# Altium schematic symbol library AltiumDesigner.SchLib: 117 symbols
Pins are listed as number, name and electrical type; pins without a type are passive.

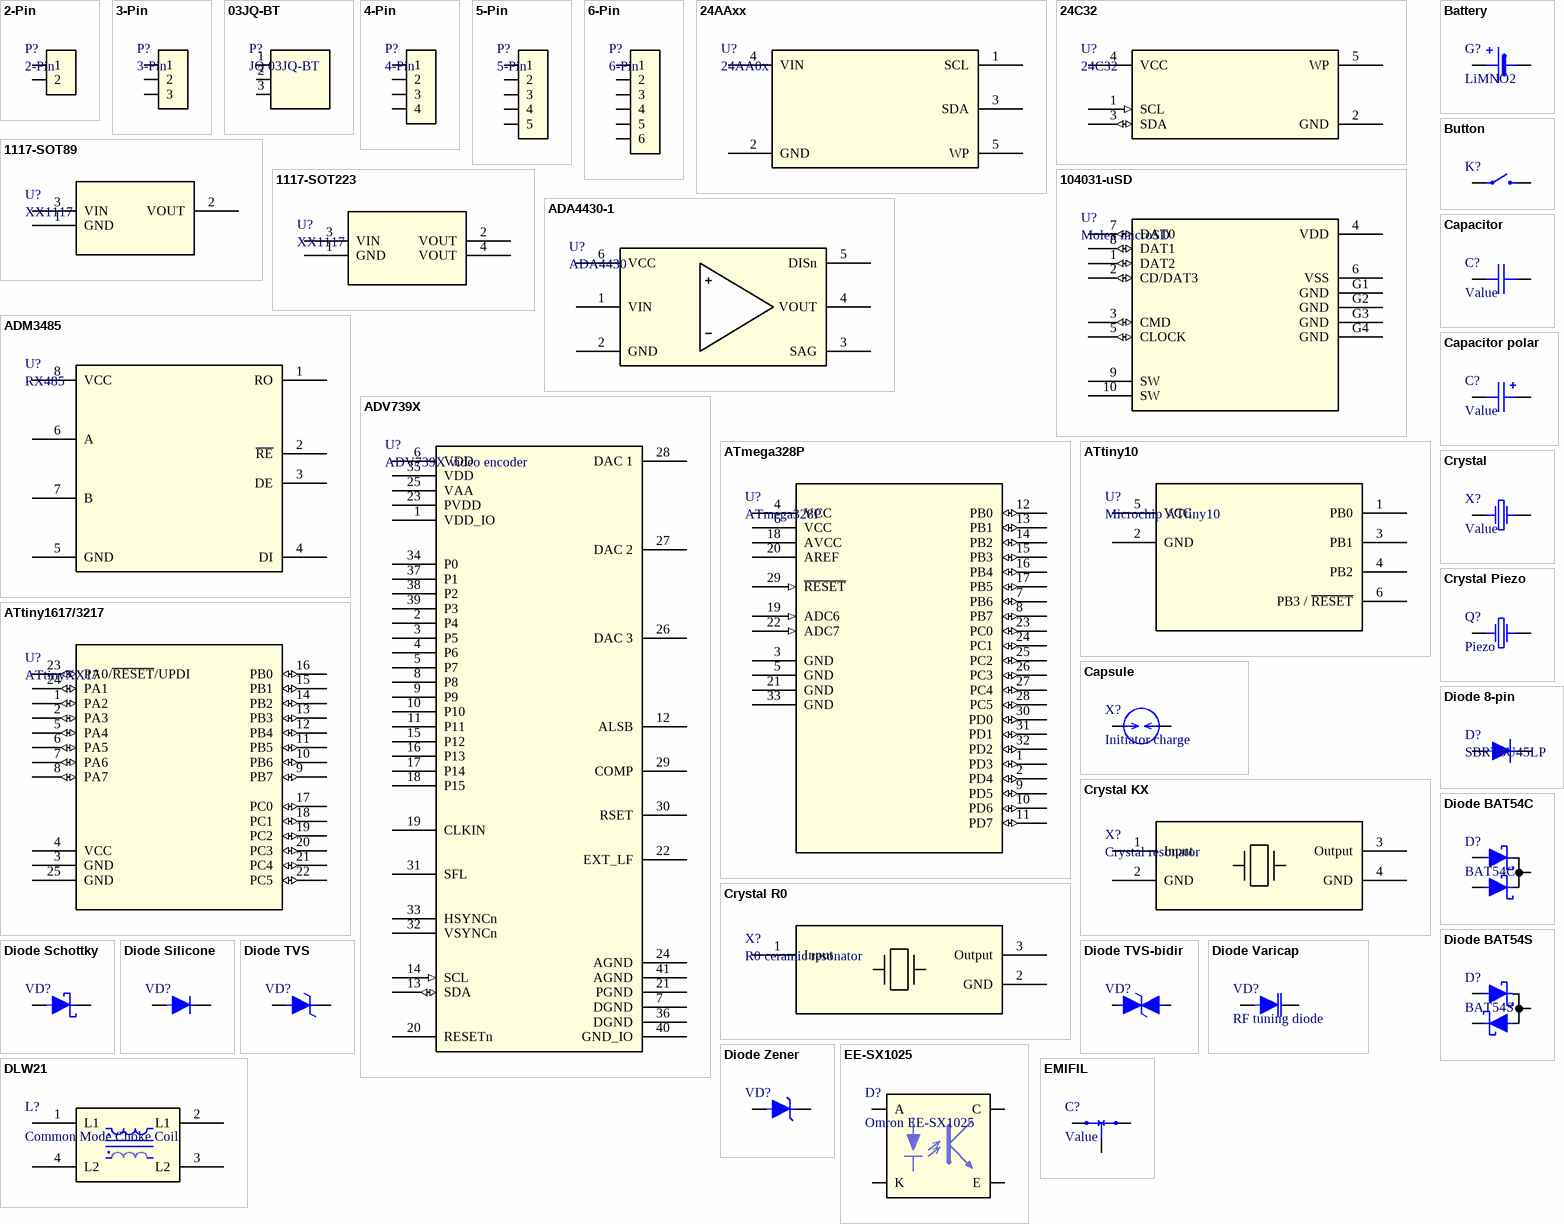
[diagram p0: symbols 2-Pin to EMIFIL]

## 2-Pin
designator P?
footprint KLS1-5.08-02-S
footprint JST-B2B-XH-A
pins: 1, 2

## 3-Pin
designator P?
footprint KLS1-5.08-03-S
footprint JST-B3B-XH-A
pins: 1, 2, 3

## 03JQ-BT
designator P?, comment JQ 03JQ-BT
footprint 03JQ-BT
pins: 1, 2, 3

## 4-Pin
designator P?
footprint JST-B4B-XH-A
pins: 1, 2, 3, 4

## 5-Pin
designator P?
footprint JST-B5B-XH-A
pins: 1, 2, 3, 4, 5

## 6-Pin
designator P?
footprint JST-B6B-XH-A
pins: 1, 2, 3, 4, 5, 6

## 24AAxx
designator U?, comment 24AA0x
footprint SOT23-5
pins: 1 SCL, 2 GND (power), 3 SDA, 4 VIN (power), 5 WP

## 24C32
designator U?
footprint SOT23-5
pins: 1 SCL (in), 2 GND (power), 3 SDA (io), 4 VCC (power), 5 WP

## 1117-SOT89
designator U?, comment XX1117
footprint SOT89
pins: 1 GND (power), 2 VOUT (power), 3 VIN (power)

## 1117-SOT223
designator U?, comment XX1117
footprint SOT223
pins: 1 GND (power), 2 VOUT (power), 3 VIN (power), 4 VOUT (power)

## 104031-uSD
designator U?, comment Molex microSD
footprint 104031-uSD
pins: 1 DAT2 (io), 2 CD/DAT3 (io), 3 CMD (io), 4 VDD (power), 5 CLOCK (io), 6 VSS (power), 7 DAT0 (io), 8 DAT1 (io), 9 SW, 10 SW, G1 GND, G2 GND, G3 GND, G4 GND

## ADA4430-1
designator U?, comment ADA4430
footprint SOT23-6
footprint SOT323-6
pins: 1 VIN, 2 GND (power), 3 SAG, 4 VOUT, 5 DISn, 6 VCC (power)

## ADM3485
designator U?, comment RX485
footprint SO8
pins: 1 RO, 2 ~{RE}, 3 DE, 4 DI, 5 GND (power), 6 A, 7 B, 8 VCC (power)

## ADV739X
designator U?, comment ADV739X video encoder
footprint VQFN40
pins: 1 VDD_IO (power), 2 P4, 3 P5, 4 P6, 5 P7, 6 VDD (power), 7 DGND (power), 8 P8, 9 P9, 10 P10, 11 P11, 12 ALSB, 13 SDA (io), 14 SCL (in), 15 P12, 16 P13, 17 P14, 18 P15, 19 CLKIN, 20 RESETn, 21 PGND (power), 22 EXT_LF, 23 PVDD (power), 24 AGND (power), 25 VAA (power), 26 DAC 3, 27 DAC 2, 28 DAC 1, 29 COMP, 30 RSET, 31 SFL, 32 VSYNCn, 33 HSYNCn, 34 P0, 35 VDD (power), 36 DGND (power), 37 P1, 38 P2, 39 P3, 40 GND_IO (power), 41 AGND (power)

## ATmega328P
designator U?
footprint VQFNP32
pins: 1 PD3 (io), 2 PD4 (io), 3 GND (power), 4 VCC (power), 5 GND (power), 6 VCC (power), 7 PB6 (io), 8 PB7 (io), 9 PD5 (io), 10 PD6 (io), 11 PD7 (io), 12 PB0 (io), 13 PB1 (io), 14 PB2 (io), 15 PB3 (io), 16 PB4 (io), 17 PB5 (io), 18 AVCC (power), 19 ADC6 (in), 20 AREF (power), 21 GND (power), 22 ADC7 (in), 23 PC0 (io), 24 PC1 (io), 25 PC2 (io), 26 PC3 (io), 27 PC4 (io), 28 PC5 (io), 29 ~{RESET} (in), 30 PD0 (io), 31 PD1 (io), 32 PD2 (io), 33 GND (power)

## ATtiny10
designator U?, comment Microchip ATtiny10
footprint SOT23-6
pins: 1 PB0, 2 GND (power), 3 PB1, 4 PB2, 5 VCC (power), 6 PB3 / ~{RESET}

## ATtiny1617/3217
designator U?, comment ATtinyXX17
footprint VQFN24
pins: 1 PA2 (io), 2 PA3 (io), 3 GND (power), 4 VCC (power), 5 PA4 (io), 6 PA5 (io), 7 PA6 (io), 8 PA7 (io), 9 PB7 (io), 10 PB6 (io), 11 PB5 (io), 12 PB4 (io), 13 PB3 (io), 14 PB2 (io), 15 PB1 (io), 16 PB0 (io), 17 PC0 (io), 18 PC1 (io), 19 PC2 (io), 20 PC3 (io), 21 PC4 (io), 22 PC5 (io), 23 PA0/~{RESET}/UPDI (io), 24 PA1 (io), 25 GND (power)

## Battery
designator G?, comment LiMNO2
footprint CR1225-VBY2
pins: 1, 2

## Button
designator K?
footprint TS7704
footprint R-668048
pins: 1, 2

## Capacitor
designator C?, comment Value
footprint 0402
footprint 0603
footprint 0805
footprint 1206
footprint 2010
footprint 2512
footprint 1210
footprint 1812
footprint 1825
footprint 2220
footprint 2225
footprint 0402 rounded
footprint 1008
footprint 0201
pins: 1, 2

## Capacitor polar
designator C?, comment Value
footprint Cap F
footprint CAP A
footprint CAP D
footprint CAP D12.5
footprint CAP D10
pins: 1, 2

## Capsule
designator X?, comment Initiator charge
footprint Capsule
footprint XH2.54-2S (Signal connector)
pins: 1, 2

## Crystal
designator X?, comment Value
footprint ABS05
pins: 1, 2

## Crystal KX
designator X?, comment Crystal resonator
footprint KX-9
footprint KX-6
footprint KX-4
pins: 1 Input, 2 GND, 3 Output, 4 GND

## Crystal Piezo
designator Q?, comment Piezo
footprint PKMCS0909E4000-R1
pins: 1, 2

## Crystal R0
designator X?, comment R0 ceramic resonator
footprint R0
pins: 1 Input, 2 GND, 3 Output

## Diode 8-pin
designator D?, comment SBRT6U45LP
footprint SON Q3
pins: 1 A, 2 A, 3 A, 4 A, 5 K, 6 K, 7 K, 8 K

## Diode BAT54C
designator D?, comment BAT54C
footprint SOT323
footprint SOT23-3
footprint SOT523
pins: 1 A, 2 A, 3 K

## Diode BAT54S
designator D?, comment BAT54S
footprint SOT323
footprint SOT23-3
footprint SOT523
pins: 1 A, 2 K, 3 C

## Diode Schottky
designator VD?
footprint SOD323F
footprint SOD523
footprint SMB
footprint POWERDI5
footprint SMA
footprint SMC
pins: 1 A, 2 K

## Diode Silicone
designator VD?
footprint SOD323F
footprint SOD523
footprint SMB
footprint POWERDI5
footprint SMA
footprint SMC
pins: 1 A, 2 K

## Diode TVS
designator VD?
footprint SMA
footprint SMB
footprint SMC
pins: 1 A, 2 K

## Diode TVS-bidir
designator VD?
footprint X1SON
footprint SOD323Bi
footprint SMABi
pins: 1 A, 2 K

## Diode Varicap
designator VD?, comment RF tuning diode
footprint SC79
pins: 1 A, 2 K

## Diode Zener
designator VD?
footprint SOD323F
footprint SOD523
footprint SMB
footprint POWERDI5
footprint SMA
footprint SMC
pins: 1 A, 2 K

## DLW21
designator L?, comment Common Mode Choke Coil
footprint DLW21
pins: 1 L1, 2 L1, 3 L2, 4 L2

## EE-SX1025
designator D?, comment Omron EE-SX1025
footprint EE-SX1025
pins: 1 A, 2 K, 3 C, 4 E

## EMIFIL
designator C?, comment Value
footprint 0402 EMIFIL
footprint 0603 EMIFIL
pins: 1, 2, 3

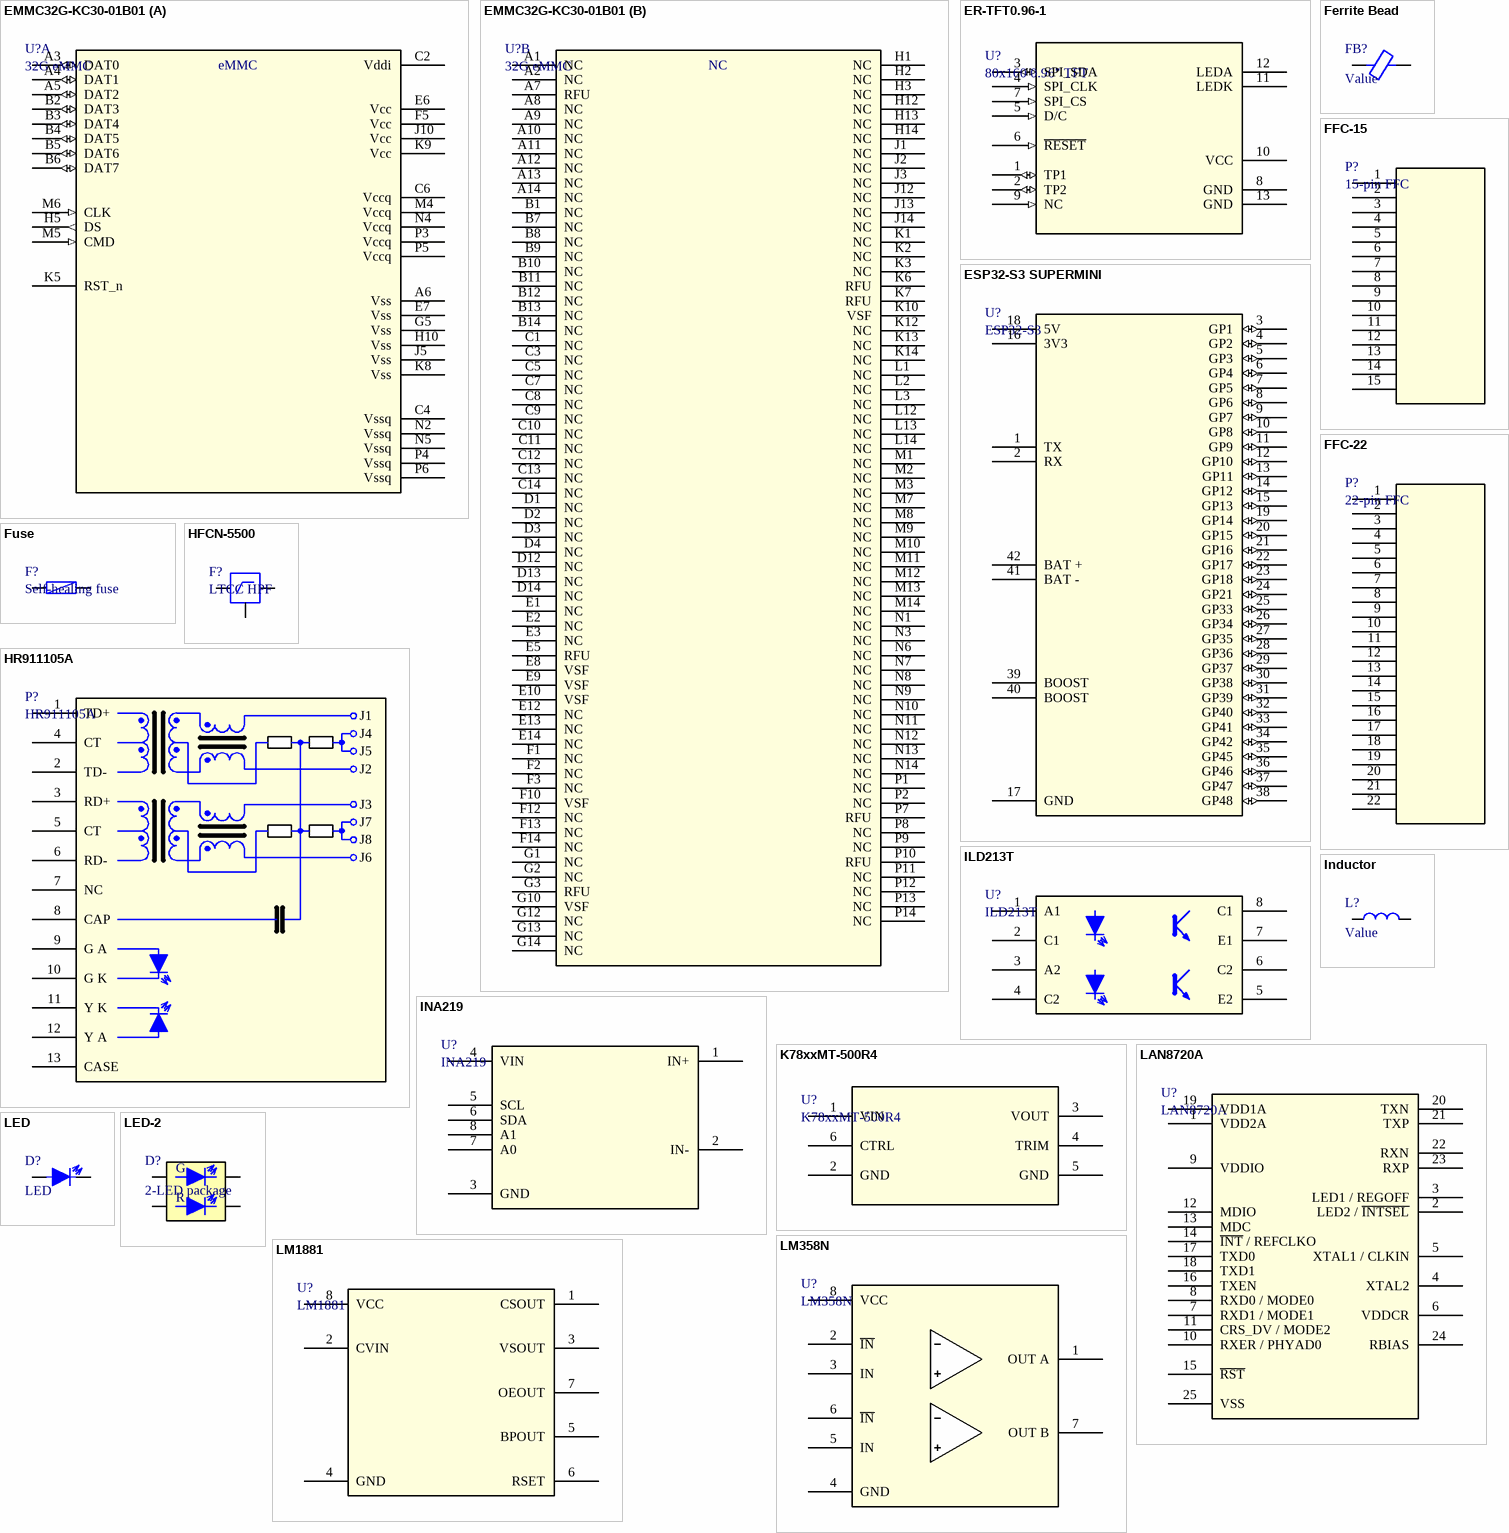
[diagram p1: symbols EMMC32G-KC30-01B01 to LM1881]

## EMMC32G-KC30-01B01
designator U?, comment 32G eMMC
footprint FBGA-153
part A pins: A3 DAT0 (io), A4 DAT1 (io), A5 DAT2 (io), A6 Vss (power), B2 DAT3 (io), B3 DAT4 (io), B4 DAT5 (io), B5 DAT6 (io), B6 DAT7 (io), C2 Vddi, C4 Vssq (power), C6 Vccq (power), E6 Vcc (power), E7 Vss (power), F5 Vcc (power), G5 Vss (power), H5 DS (out), H10 Vss (power), J5 Vss (power), J10 Vcc (power), K5 RST_n, K8 Vss (power), K9 Vcc (power), M4 Vccq (power), M5 CMD (in), M6 CLK (in), N2 Vssq (power), N4 Vccq (power), N5 Vssq (power), P3 Vccq (power), P4 Vssq (power), P5 Vccq (power), P6 Vssq (power)
part B pins: A1 NC (power), A2 NC (power), A7 RFU (power), A8 NC (power), A9 NC (power), A10 NC (power), A11 NC (power), A12 NC (power), A13 NC (power), A14 NC (power), B1 NC (power), B7 NC (power), B8 NC (power), B9 NC (power), B10 NC (power), B11 NC (power), B12 NC (power), B13 NC (power), B14 NC (power), C1 NC (power), C3 NC (power), C5 NC (power), C7 NC (power), C8 NC (power), C9 NC (power), C10 NC (power), C11 NC (power), C12 NC (power), C13 NC (power), C14 NC (power), D1 NC (power), D2 NC (power), D3 NC (power), D4 NC (power), D12 NC (power), D13 NC (power), D14 NC (power), E1 NC (power), E2 NC (power), E3 NC (power), E5 RFU (power), E8 VSF (power), E9 VSF (power), E10 VSF (power), E12 NC (power), E13 NC (power), E14 NC (power), F1 NC (power), F2 NC (power), F3 NC (power), F10 VSF (power), F12 NC (power), F13 NC (power), F14 NC (power), G1 NC (power), G2 NC (power), G3 RFU (power), G10 VSF (power), G12 NC (power), G13 NC (power), G14 NC (power), H1 NC (power), H2 NC (power), H3 NC (power), H12 NC (power), H13 NC (power), H14 NC (power), J1 NC (power), J2 NC (power), J3 NC (power), J12 NC (power), J13 NC (power), J14 NC (power), K1 NC (power), K2 NC (power), K3 NC (power), K6 RFU (power), K7 RFU (power), K10 VSF (power), K12 NC (power), K13 NC (power), K14 NC (power), L1 NC (power), L2 NC (power), L3 NC (power), L12 NC (power), L13 NC (power), L14 NC (power), M1 NC (power), M2 NC (power), M3 NC (power), M7 NC (power), M8 NC (power), M9 NC (power), M10 NC (power), M11 NC (power), M12 NC (power), M13 NC (power), M14 NC (power), N1 NC (power), N3 NC (power), N6 NC (power), N7 NC (power), N8 NC (power), N9 NC (power), N10 NC (power), N11 NC (power), N12 NC (power), N13 NC (power), N14 NC (power), P1 NC (power), P2 NC (power), P7 RFU (power), P8 NC (power), P9 NC (power), P10 RFU (power), P11 NC (power), P12 NC (power), P13 NC (power), P14 NC (power)
part A text: eMMC

## ER-TFT0.96-1
designator U?, comment 80x160 0.96" TFT
footprint ER-TFT0.96-1
footprint ER-TFT0.96-1-TURN
pins: 1 TP1 (io), 2 TP2 (io), 3 SPI_SDA (io), 4 SPI_CLK (in), 5 D/C (in), 6 ~{RESET} (in), 7 SPI_CS (in), 8 GND (power), 9 NC (in), 10 VCC (power), 11 LEDK (power), 12 LEDA (power), 13 GND (power)

## ESP32-S3 SUPERMINI
designator U?, comment ESP32-S3
footprint ESP32-S3-SUPERMINI
pins: 1 TX, 2 RX, 3 GP1 (io), 4 GP2 (io), 5 GP3 (io), 6 GP4 (io), 7 GP5 (io), 8 GP6 (io), 9 GP7 (io), 10 GP8 (io), 11 GP9 (io), 12 GP10 (io), 13 GP11 (io), 14 GP12 (io), 15 GP13 (io), 16 3V3 (power), 17 GND (power), 18 5V (power), 19 GP14 (io), 20 GP15 (io), 21 GP16 (io), 22 GP17 (io), 23 GP18 (io), 24 GP21 (io), 25 GP33 (io), 26 GP34 (io), 27 GP35 (io), 28 GP36 (io), 29 GP37 (io), 30 GP38 (io), 31 GP39 (io), 32 GP40 (io), 33 GP41 (io), 34 GP42 (io), 35 GP45 (io), 36 GP46 (io), 37 GP47 (io), 38 GP48 (io), 39 BOOST, 40 BOOST, 41 BAT -, 42 BAT +

## Ferrite Bead
designator FB?, comment Value
footprint 0402
footprint 0603
footprint 0805
footprint 1206
footprint 2010
footprint 2512
footprint 1210
footprint 1812
footprint 1825
footprint 2220
footprint 2225
footprint 0402 rounded
footprint 1008
footprint 0201
pins: 1, 2

## FFC-15
designator P?, comment 15-pin FFC
footprint SFW15R
pins: 1, 2, 3, 4, 5, 6, 7, 8, 9, 10, 11, 12, 13, 14, 15

## FFC-22
designator P?, comment 22-pin FFC
footprint F32Q-22
footprint FFC2B35-22-G
pins: 1, 2, 3, 4, 5, 6, 7, 8, 9, 10, 11, 12, 13, 14, 15, 16, 17, 18, 19, 20, 21, 22

## Fuse
designator F?, comment Self-healing fuse
footprint 0603
footprint 0805
footprint 1206
footprint 2410
pins: 1, 2

## HFCN-5500
designator F?, comment LTCC HPF
footprint HFCN-5500
pins: 1, 2, 3

## HR911105A
designator P?
footprint HR911105A
pins: 1 TD+, 2 TD-, 3 RD+, 4 CT, 5 CT, 6 RD-, 7 NC, 8 CAP, 9 G A, 10 G K, 11 Y K, 12 Y A, 13 CASE
text: J1; J4; J5; J2; J3; J7; J8; J6

## ILD213T
designator U?
footprint SO8
pins: 1 A1, 2 C1, 3 A2, 4 C2, 5 E2, 6 C2, 7 E1, 8 C1

## INA219
designator U?
footprint SOT23-8
pins: 1 IN+, 2 IN-, 3 GND (power), 4 VIN (power), 5 SCL, 6 SDA, 7 A0, 8 A1

## Inductor
designator L?, comment Value
footprint 0402
footprint 0603
footprint 0805
footprint 1206
footprint 2010
footprint 2512
footprint 1210
footprint 1812
footprint 1825
footprint 2220
footprint 2225
footprint 0402 rounded
footprint 1008
footprint AMPLH40XXS (Bourns SRP40XXFA)
footprint SRP40XXFA (Bourns SRP40XXFA)
footprint SRP50XXCA (Bourns SRP5030CA)
footprint XxL40x0 (Coilcraft XxL40x0)
footprint XAL6060 (Coilcraft XxL60x0)
footprint 0201
footprint CDRH104R
footprint SRP70XXTA (Bourns SRP70XXTA)
footprint CDRH127
pins: 1, 2

## K78xxMT-500R4
designator U?
footprint K78xxMT-500R4
pins: 1 VIN (power), 2 GND (power), 3 VOUT (power), 4 TRIM, 5 GND (power), 6 CTRL

## LAN8720A
designator U?
footprint VQFN24
pins: 1 VDD2A (power), 2 LED2 / ~{INTSEL}, 3 LED1 / REGOFF, 4 XTAL2, 5 XTAL1 / CLKIN, 6 VDDCR (power), 7 RXD1 / MODE1, 8 RXD0 / MODE0, 9 VDDIO (power), 10 RXER / PHYAD0, 11 CRS_DV / MODE2, 12 MDIO, 13 MDC, 14 ~{INT} / REFCLKO, 15 ~{RST}, 16 TXEN, 17 TXD0, 18 TXD1, 19 VDD1A (power), 20 TXN, 21 TXP, 22 RXN, 23 RXP, 24 RBIAS, 25 VSS (power)

## LED
designator D?
footprint 3535 LED
footprint 3535 LED DTP
footprint 0402
footprint 0603
footprint 0805
footprint 1206
pins: 1 A, 2 K

## LED-2
designator D?, comment 2-LED package
footprint B2972USNG20
pins: 1 K, 2 A, 3 A, 4 K
text: G; R

## LM358N
designator U?
footprint SO8
pins: 1 OUT A, 2 ~{IN}, 3 IN, 4 GND (power), 5 IN, 6 ~{IN}, 7 OUT B, 8 VCC (power)

## LM1881
designator U?
footprint SO8
pins: 1 CSOUT, 2 CVIN, 3 VSOUT, 4 GND (power), 5 BPOUT, 6 RSET, 7 OEOUT, 8 VCC (power)

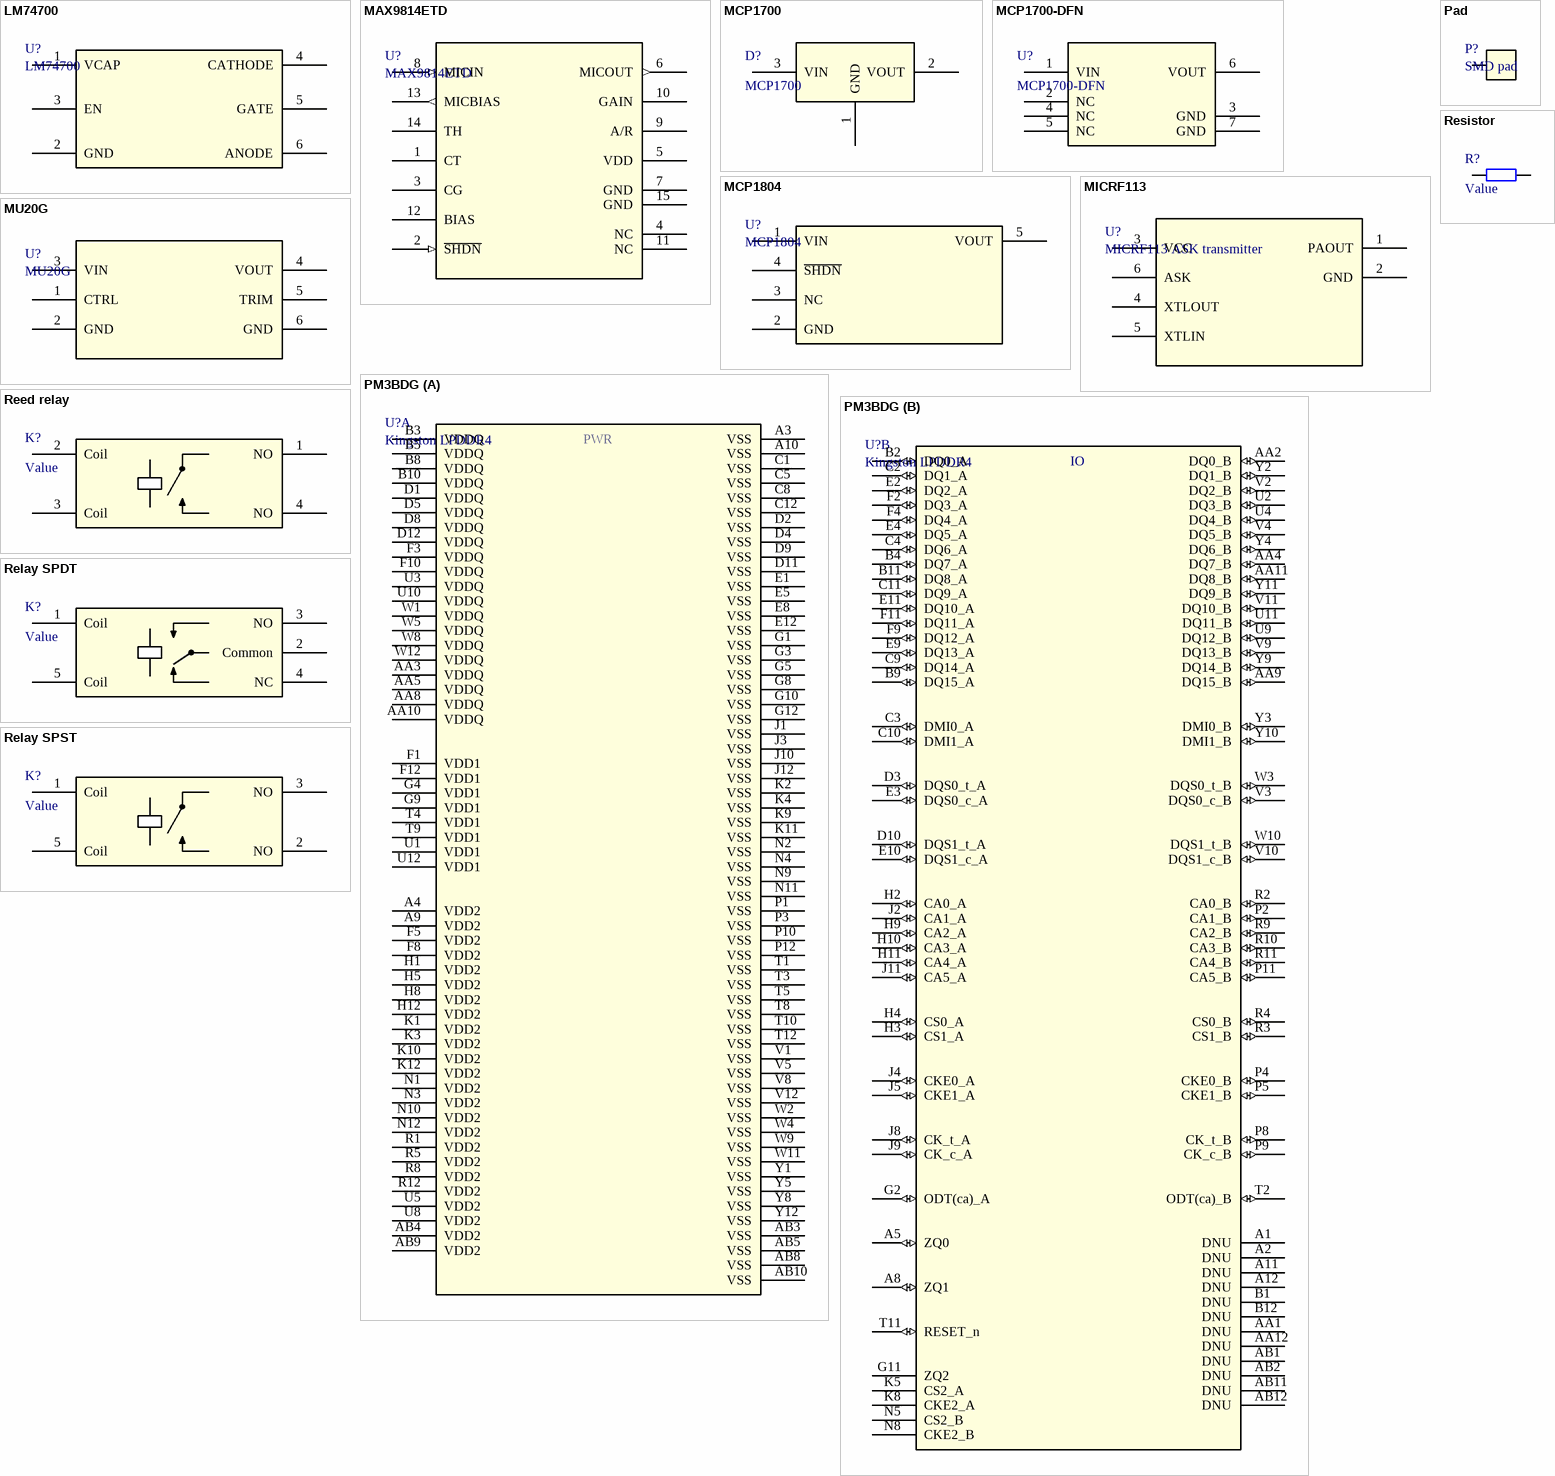
[diagram p2: symbols LM74700 to Resistor]

## LM74700
designator U?
footprint SOT23-6
pins: 1 VCAP, 2 GND (power), 3 EN, 4 CATHODE, 5 GATE, 6 ANODE

## MAX9814ETD
designator U?
footprint SON40P300X300X80-15N
pins: 1 CT, 2 ~{SHDN} (in), 3 CG, 4 NC, 5 VDD (power), 6 MICOUT (out), 7 GND (power), 8 MICIN (in), 9 A/R, 10 GAIN, 11 NC, 12 BIAS, 13 MICBIAS (out), 14 TH, 15 GND (power)

## MCP1700
designator D?
footprint SOT23-3
pins: 1 GND (power), 2 VOUT (power), 3 VIN (power)

## MCP1700-DFN
designator U?
footprint DFN-6
pins: 1 VIN (power), 2 NC (power), 3 GND (power), 4 NC (power), 5 NC (power), 6 VOUT (power), 7 GND (power)

## MCP1804
designator U?
footprint SOT23-5
pins: 1 VIN (power), 2 GND (power), 3 NC, 4 ~{SHDN}, 5 VOUT (power)

## MICRF113
designator U?, comment MICRF113 ASK transmitter
footprint SOT23-6
pins: 1 PAOUT, 2 GND (power), 3 VCC (power), 4 XTLOUT, 5 XTLIN, 6 ASK

## MU20G
designator U?
pins: 1 CTRL (power), 2 GND (power), 3 VIN (power), 4 VOUT, 5 TRIM (power), 6 GND

## Pad
designator P?, comment SMD pad
footprint 1-Signal
footprint 1-SignalSmall
footprint 1-SignalLarge
footprint 1-SignalPogo
footprint 1-SignalXLarge
footprint 1-Power
footprint 1-PowerSquare2x2
footprint 1-PowerSquare3x3
footprint 1-PowerVia
footprint 1-SignalVia
footprint 1-SignalViaLarge
pins: 1

## PM3BDG
designator U?, comment Kingston LPDDR4
Manufacturer_Part_Number: stm32l486rx; Vendor: ST Microelectronics; Copyright: Copyright (C) 2016 Accelerated Designs. All rights reserved; RefDes: RefDes; Type: DEV; Value: Value
footprint FBGA-200
part A pins: A3 VSS (power), A4 VDD2 (power), A9 VDD2 (power), A10 VSS (power), AA3 VDDQ (power), AA5 VDDQ (power), AA8 VDDQ (power), AA10 VDDQ (power), AB3 VSS (power), AB4 VDD2 (power), AB5 VSS (power), AB8 VSS (power), AB9 VDD2 (power), AB10 VSS (power), B3 VDDQ (power), B5 VDDQ (power), B8 VDDQ (power), B10 VDDQ (power), C1 VSS (power), C5 VSS (power), C8 VSS (power), C12 VSS (power), D1 VDDQ (power), D2 VSS (power), D4 VSS (power), D5 VDDQ (power), D8 VDDQ (power), D9 VSS (power), D11 VSS (power), D12 VDDQ (power), E1 VSS (power), E5 VSS (power), E8 VSS (power), E12 VSS (power), F1 VDD1 (power), F3 VDDQ (power), F5 VDD2 (power), F8 VDD2 (power), F10 VDDQ (power), F12 VDD1 (power), G1 VSS (power), G3 VSS (power), G4 VDD1 (power), G5 VSS (power), G8 VSS (power), G9 VDD1 (power), G10 VSS (power), G12 VSS (power), H1 VDD2 (power), H5 VDD2 (power), H8 VDD2 (power), H12 VDD2 (power), J1 VSS (power), J3 VSS (power), J10 VSS (power), J12 VSS (power), K1 VDD2 (power), K2 VSS (power), K3 VDD2 (power), K4 VSS (power), K9 VSS (power), K10 VDD2 (power), K11 VSS (power), K12 VDD2 (power), N1 VDD2 (power), N2 VSS (power), N3 VDD2 (power), N4 VSS (power), N9 VSS (power), N10 VDD2 (power), N11 VSS (power), N12 VDD2 (power), P1 VSS (power), P3 VSS (power), P10 VSS (power), P12 VSS (power), R1 VDD2 (power), R5 VDD2 (power), R8 VDD2 (power), R12 VDD2 (power), T1 VSS (power), T3 VSS (power), T4 VDD1 (power), T5 VSS (power), T8 VSS (power), T9 VDD1 (power), T10 VSS (power), T12 VSS (power), U1 VDD1 (power), U3 VDDQ (power), U5 VDD2 (power), U8 VDD2 (power), U10 VDDQ (power), U12 VDD1 (power), V1 VSS (power), V5 VSS (power), V8 VSS (power), V12 VSS (power), W1 VDDQ (power), W2 VSS (power), W4 VSS (power), W5 VDDQ (power), W8 VDDQ (power), W9 VSS (power), W11 VSS (power), W12 VDDQ (power), Y1 VSS (power), Y5 VSS (power), Y8 VSS (power), Y12 VSS (power)
part B pins: A1 DNU, A2 DNU, A5 ZQ0 (io), A8 ZQ1 (io), A11 DNU, A12 DNU, AA1 DNU, AA2 DQ0_B (io), AA4 DQ7_B (io), AA9 DQ15_B (io), AA11 DQ8_B (io), AA12 DNU, AB1 DNU, AB2 DNU, AB11 DNU, AB12 DNU, B1 DNU, B2 DQ0_A (io), B4 DQ7_A (io), B9 DQ15_A (io), B11 DQ8_A (io), B12 DNU, C2 DQ1_A (io), C3 DMI0_A (io), C4 DQ6_A (io), C9 DQ14_A (io), C10 DMI1_A (io), C11 DQ9_A (io), D3 DQS0_t_A (io), D10 DQS1_t_A (io), E2 DQ2_A (io), E3 DQS0_c_A (io), E4 DQ5_A (io), E9 DQ13_A (io), E10 DQS1_c_A (io), E11 DQ10_A (io), F2 DQ3_A (io), F4 DQ4_A (io), F9 DQ12_A (io), F11 DQ11_A (io), G2 ODT(ca)_A (io), G11 ZQ2, H2 CA0_A (io), H3 CS1_A (io), H4 CS0_A (io), H9 CA2_A (io), H10 CA3_A (io), H11 CA4_A (io), J2 CA1_A (io), J4 CKE0_A (io), J5 CKE1_A (io), J8 CK_t_A (io), J9 CK_c_A (io), J11 CA5_A (io), K5 CS2_A, K8 CKE2_A, N5 CS2_B, N8 CKE2_B, P2 CA1_B (io), P4 CKE0_B (io), P5 CKE1_B (io), P8 CK_t_B (io), P9 CK_c_B (io), P11 CA5_B (io), R2 CA0_B (io), R3 CS1_B (io), R4 CS0_B (io), R9 CA2_B (io), R10 CA3_B (io), R11 CA4_B (io), T2 ODT(ca)_B (io), T11 RESET_n (io), U2 DQ3_B (io), U4 DQ4_B (io), U9 DQ12_B (io), U11 DQ11_B (io), V2 DQ2_B (io), V3 DQS0_c_B (io), V4 DQ5_B (io), V9 DQ13_B (io), V10 DQS1_c_B (io), V11 DQ10_B (io), W3 DQS0_t_B (io), W10 DQS1_t_B (io), Y2 DQ1_B (io), Y3 DMI0_B (io), Y4 DQ6_B (io), Y9 DQ14_B (io), Y10 DMI1_B (io), Y11 DQ9_B (io)
part A text: PWR
part B text: IO

## Reed relay
designator K?, comment Value
footprint R1-1A0500
pins: 1 NO (power), 2 Coil, 3 Coil, 4 NO

## Relay SPDT
designator K?, comment Value
footprint G5Q SPDT
pins: 1 Coil, 2 Common (power), 3 NO (power), 4 NC, 5 Coil

## Relay SPST
designator K?, comment Value
footprint G5Q SPST
pins: 1 Coil, 2 NO (power), 3 NO (power), 5 Coil

## Resistor
designator R?, comment Value
footprint 0402
footprint 0603
footprint 0805
footprint 1206
footprint 2010
footprint 2512
footprint 1210
footprint 1812
footprint 1825
footprint 2220
footprint 2225
footprint 0402 rounded
footprint 1008
footprint 0201
pins: 1, 2

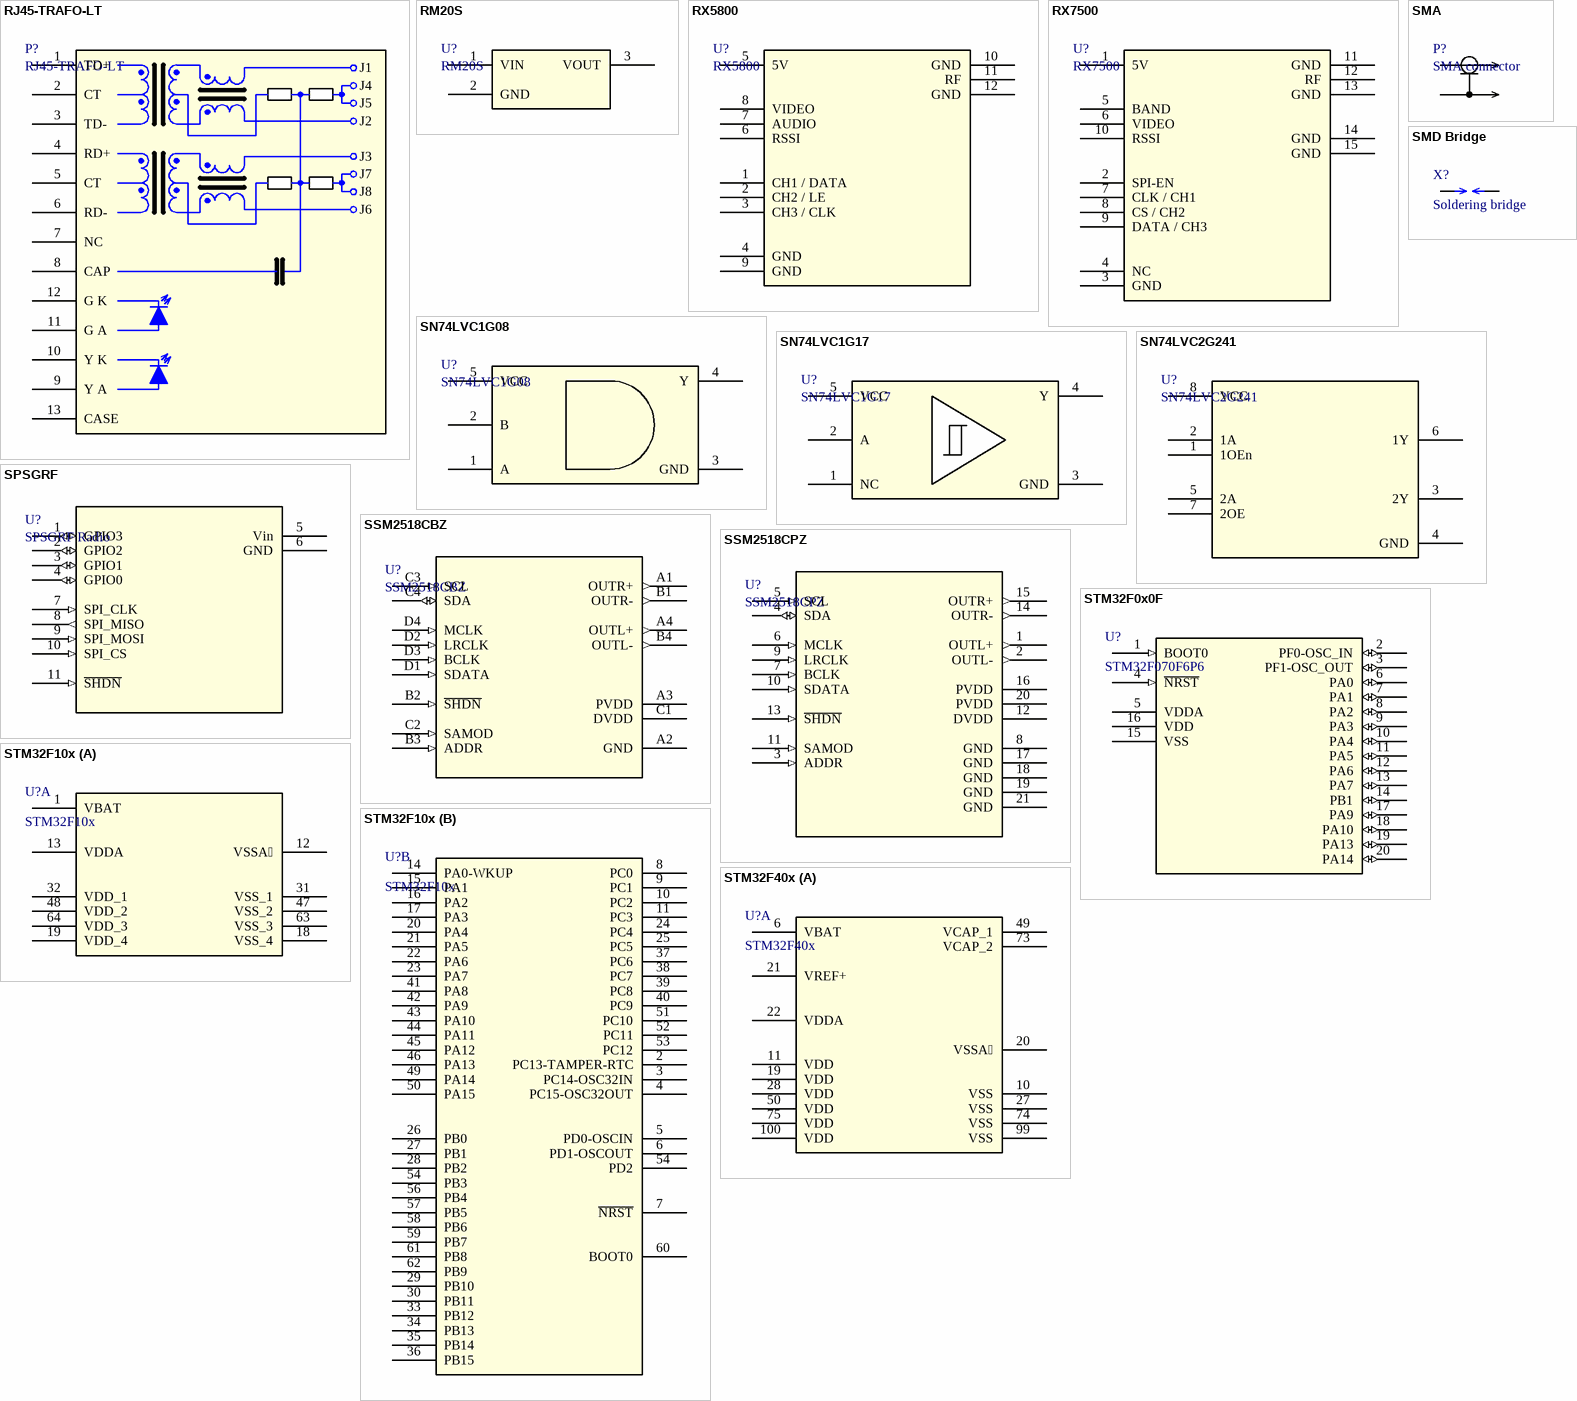
[diagram p3: symbols RJ45-TRAFO-LT to STM32F40x]

## RJ45-TRAFO-LT
designator P?
footprint RJ45-TRAFO-LT
pins: 1 TD+, 2 CT, 3 TD-, 4 RD+, 5 CT, 6 RD-, 7 NC, 8 CAP, 9 Y A, 10 Y K, 11 G A, 12 G K, 13 CASE
text: J1; J4; J5; J2; J3; J7; J8; J6

## RM20S
designator U?
footprint RM20S
pins: 1 VIN (power), 2 GND (power), 3 VOUT (power)

## RX5800
designator U?
footprint VRX-SMALL
pins: 1 CH1 / DATA, 2 CH2 / LE, 3 CH3 / CLK, 4 GND (power), 5 5V (power), 6 RSSI, 7 AUDIO, 8 VIDEO, 9 GND (power), 10 GND, 11 RF, 12 GND

## RX7500
designator U?
footprint VRX
pins: 1 5V (power), 2 SPI-EN, 3 GND (power), 4 NC, 5 BAND, 6 VIDEO, 7 CLK / CH1, 8 CS / CH2, 9 DATA / CH3, 10 RSSI, 11 GND, 12 RF, 13 GND, 14 GND, 15 GND

## SMA
designator P?, comment SMA connector
footprint SMA CONNECTOR
pins: 1 GND, 2 Signal

## SMD Bridge
designator X?, comment Soldering bridge
footprint 0402 bridge
footprint 0402 bridge wide
pins: 1, 2

## SN74LVC1G08
designator U?
footprint X2SON
pins: 1 A, 2 B, 3 GND (power), 4 Y, 5 VCC (power)

## SN74LVC1G17
designator U?
footprint X2SON
pins: 1 NC, 2 A, 3 GND (power), 4 Y, 5 VCC (power)

## SN74LVC2G241
designator U?
footprint WLCSP8; pin to pad 1>A1 2>B1 3>C1 4>D1 5>D2 6>C2 7>B2 8>A2
footprint VSSOP8
pins: 1 1OEn, 2 1A, 3 2Y, 4 GND (power), 5 2A, 6 1Y, 7 2OE, 8 VCC (power)

## SPSGRF
designator U?, comment SPSGRF Radio
footprint SPSGRF
pins: 1 GPIO3 (io), 2 GPIO2 (io), 3 GPIO1 (io), 4 GPIO0 (io), 5 Vin (power), 6 GND (power), 7 SPI_CLK (in), 8 SPI_MISO (out), 9 SPI_MOSI (in), 10 SPI_CS (in), 11 ~{SHDN} (in)

## SSM2518CBZ
designator U?
footprint WLCSP16
pins: A1 OUTR+ (out), A2 GND (power), A3 PVDD (power), A4 OUTL+ (out), B1 OUTR- (out), B2 ~{SHDN} (in), B3 ADDR (in), B4 OUTL- (out), C1 DVDD (power), C2 SAMOD (in), C3 SCL (in), C4 SDA (io), D1 SDATA (in), D2 LRCLK (in), D3 BCLK (in), D4 MCLK (in)

## SSM2518CPZ
designator U?
footprint QFN50P400X400X100-21N
pins: 1 OUTL+ (out), 2 OUTL- (out), 3 ADDR (in), 4 SDA (io), 5 SCL (in), 6 MCLK (in), 7 BCLK (in), 8 GND (power), 9 LRCLK (in), 10 SDATA (in), 11 SAMOD (in), 12 DVDD (power), 13 ~{SHDN} (in), 14 OUTR- (out), 15 OUTR+ (out), 16 PVDD (power), 17 GND (power), 18 GND (power), 19 GND (power), 20 PVDD (power), 21 GND (power)

## STM32F0x0F
designator U?, comment STM32F070F6P6
footprint TSSOP20
pins: 1 BOOT0 (in), 2 PF0-OSC_IN (io), 3 PF1-OSC_OUT (io), 4 ~{NRST} (in), 5 VDDA (power), 6 PA0 (io), 7 PA1 (io), 8 PA2 (io), 9 PA3 (io), 10 PA4 (io), 11 PA5 (io), 12 PA6 (io), 13 PA7 (io), 14 PB1 (io), 15 VSS (power), 16 VDD (power), 17 PA9 (io), 18 PA10 (io), 19 PA13 (io), 20 PA14 (io)

## STM32F10x
designator U?
footprint LQFP64
part A pins: 1 VBAT (power), 12 VSSA (power), 13 VDDA (power), 18 VSS_4 (power), 19 VDD_4 (power), 31 VSS_1 (power), 32 VDD_1 (power), 47 VSS_2 (power), 48 VDD_2 (power), 63 VSS_3 (power), 64 VDD_3 (power)
part B pins: 2 PC13-TAMPER-RTC (power), 3 PC14-OSC32IN (power), 4 PC15-OSC32OUT (power), 5 PD0-OSCIN (power), 6 PD1-OSCOUT (power), 7 ~{NRST} (power), 8 PC0 (power), 9 PC1 (power), 10 PC2 (power), 11 PC3 (power), 14 PA0-WKUP (power), 15 PA1 (power), 16 PA2 (power), 17 PA3 (power), 20 PA4 (power), 21 PA5 (power), 22 PA6 (power), 23 PA7 (power), 24 PC4 (power), 25 PC5 (power), 26 PB0 (power), 27 PB1 (power), 28 PB2 (power), 29 PB10 (power), 30 PB11 (power), 33 PB12 (power), 34 PB13 (power), 35 PB14 (power), 36 PB15 (power), 37 PC6 (power), 38 PC7 (power), 39 PC8 (power), 40 PC9 (power), 41 PA8 (power), 42 PA9 (power), 43 PA10 (power), 44 PA11 (power), 45 PA12 (power), 46 PA13 (power), 49 PA14 (power), 50 PA15 (power), 51 PC10 (power), 52 PC11 (power), 53 PC12 (power), 54 PD2 (power), 54 PB3 (power), 56 PB4 (power), 57 PB5 (power), 58 PB6 (power), 59 PB7 (power), 60 BOOT0 (power), 61 PB8 (power), 62 PB9 (power)

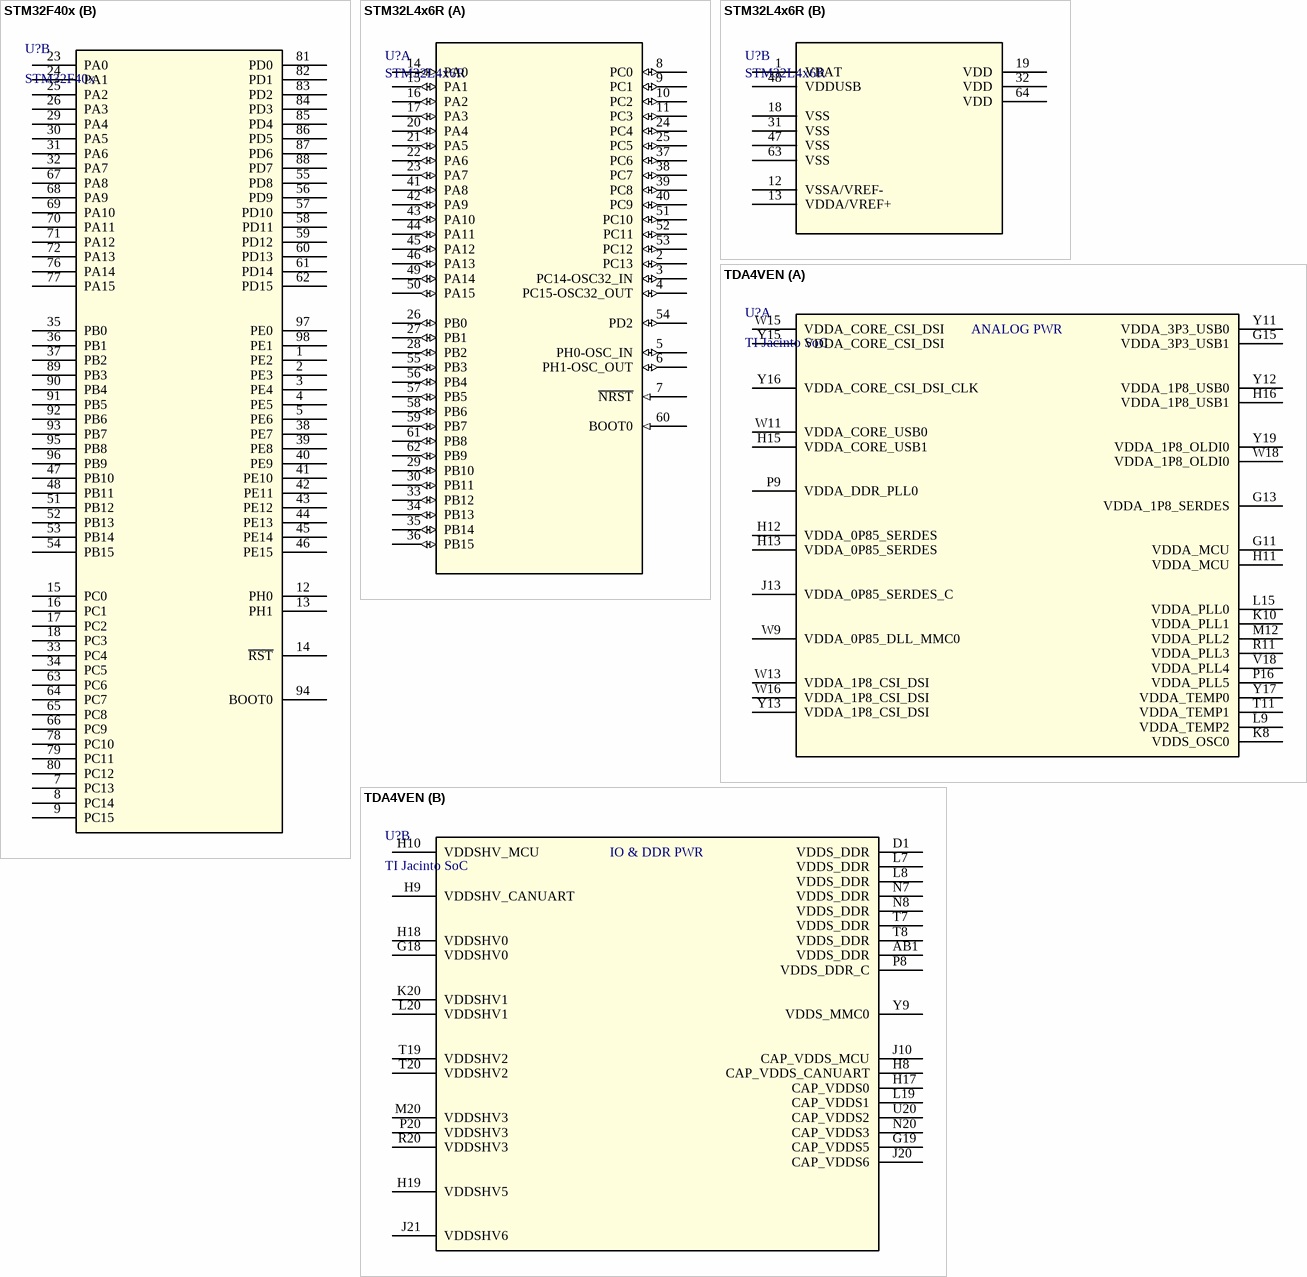
[diagram p4: symbols STM32F40x to TDA4VEN]

## STM32F40x
designator U?
footprint LQFP100
part A pins: 6 VBAT (power), 10 VSS (power), 11 VDD (power), 19 VDD (power), 20 VSSA (power), 21 VREF+ (power), 22 VDDA (power), 27 VSS (power), 28 VDD (power), 49 VCAP_1 (power), 50 VDD (power), 73 VCAP_2 (power), 74 VSS (power), 75 VDD (power), 99 VSS (power), 100 VDD (power)
part B pins: 1 PE2 (power), 2 PE3 (power), 3 PE4 (power), 4 PE5 (power), 5 PE6 (power), 7 PC13 (power), 8 PC14 (power), 9 PC15 (power), 12 PH0 (power), 13 PH1 (power), 14 ~{RST} (power), 15 PC0 (power), 16 PC1 (power), 17 PC2 (power), 18 PC3 (power), 23 PA0 (power), 24 PA1 (power), 25 PA2 (power), 26 PA3 (power), 29 PA4 (power), 30 PA5 (power), 31 PA6 (power), 32 PA7 (power), 33 PC4 (power), 34 PC5 (power), 35 PB0 (power), 36 PB1 (power), 37 PB2 (power), 38 PE7 (power), 39 PE8 (power), 40 PE9 (power), 41 PE10 (power), 42 PE11 (power), 43 PE12 (power), 44 PE13 (power), 45 PE14 (power), 46 PE15 (power), 47 PB10 (power), 48 PB11 (power), 51 PB12 (power), 52 PB13 (power), 53 PB14 (power), 54 PB15 (power), 55 PD8 (power), 56 PD9 (power), 57 PD10 (power), 58 PD11 (power), 59 PD12 (power), 60 PD13 (power), 61 PD14 (power), 62 PD15 (power), 63 PC6 (power), 64 PC7 (power), 65 PC8 (power), 66 PC9 (power), 67 PA8 (power), 68 PA9 (power), 69 PA10 (power), 70 PA11 (power), 71 PA12 (power), 72 PA13 (power), 76 PA14 (power), 77 PA15 (power), 78 PC10 (power), 79 PC11 (power), 80 PC12 (power), 81 PD0 (power), 82 PD1 (power), 83 PD2 (power), 84 PD3 (power), 85 PD4 (power), 86 PD5 (power), 87 PD6 (power), 88 PD7 (power), 89 PB3 (power), 90 PB4 (power), 91 PB5 (power), 92 PB6 (power), 93 PB7 (power), 94 BOOT0 (power), 95 PB8 (power), 96 PB9 (power), 97 PE0 (power), 98 PE1 (power)

## STM32L4x6R
designator U?
Manufacturer_Part_Number: stm32l486rx; Vendor: ST Microelectronics; Copyright: Copyright (C) 2016 Accelerated Designs. All rights reserved; RefDes: RefDes; Type: DEV; Value: Value
footprint LQFP64
part A pins: 2 PC13 (io), 3 PC14-OSC32_IN (io), 4 PC15-OSC32_OUT (io), 5 PH0-OSC_IN (io), 6 PH1-OSC_OUT (io), 7 ~{NRST} (in), 8 PC0 (io), 9 PC1 (io), 10 PC2 (io), 11 PC3 (io), 14 PA0 (io), 15 PA1 (io), 16 PA2 (io), 17 PA3 (io), 20 PA4 (io), 21 PA5 (io), 22 PA6 (io), 23 PA7 (io), 24 PC4 (io), 25 PC5 (io), 26 PB0 (io), 27 PB1 (io), 28 PB2 (io), 29 PB10 (io), 30 PB11 (io), 33 PB12 (io), 34 PB13 (io), 35 PB14 (io), 36 PB15 (io), 37 PC6 (io), 38 PC7 (io), 39 PC8 (io), 40 PC9 (io), 41 PA8 (io), 42 PA9 (io), 43 PA10 (io), 44 PA11 (io), 45 PA12 (io), 46 PA13 (io), 49 PA14 (io), 50 PA15 (io), 51 PC10 (io), 52 PC11 (io), 53 PC12 (io), 54 PD2 (io), 55 PB3 (io), 56 PB4 (io), 57 PB5 (io), 58 PB6 (io), 59 PB7 (io), 60 BOOT0 (in), 61 PB8 (io), 62 PB9 (io)
part B pins: 1 VBAT (power), 12 VSSA/VREF- (power), 13 VDDA/VREF+ (power), 18 VSS (power), 19 VDD (power), 31 VSS (power), 32 VDD (power), 47 VSS (power), 48 VDDUSB (power), 63 VSS (power), 64 VDD (power)

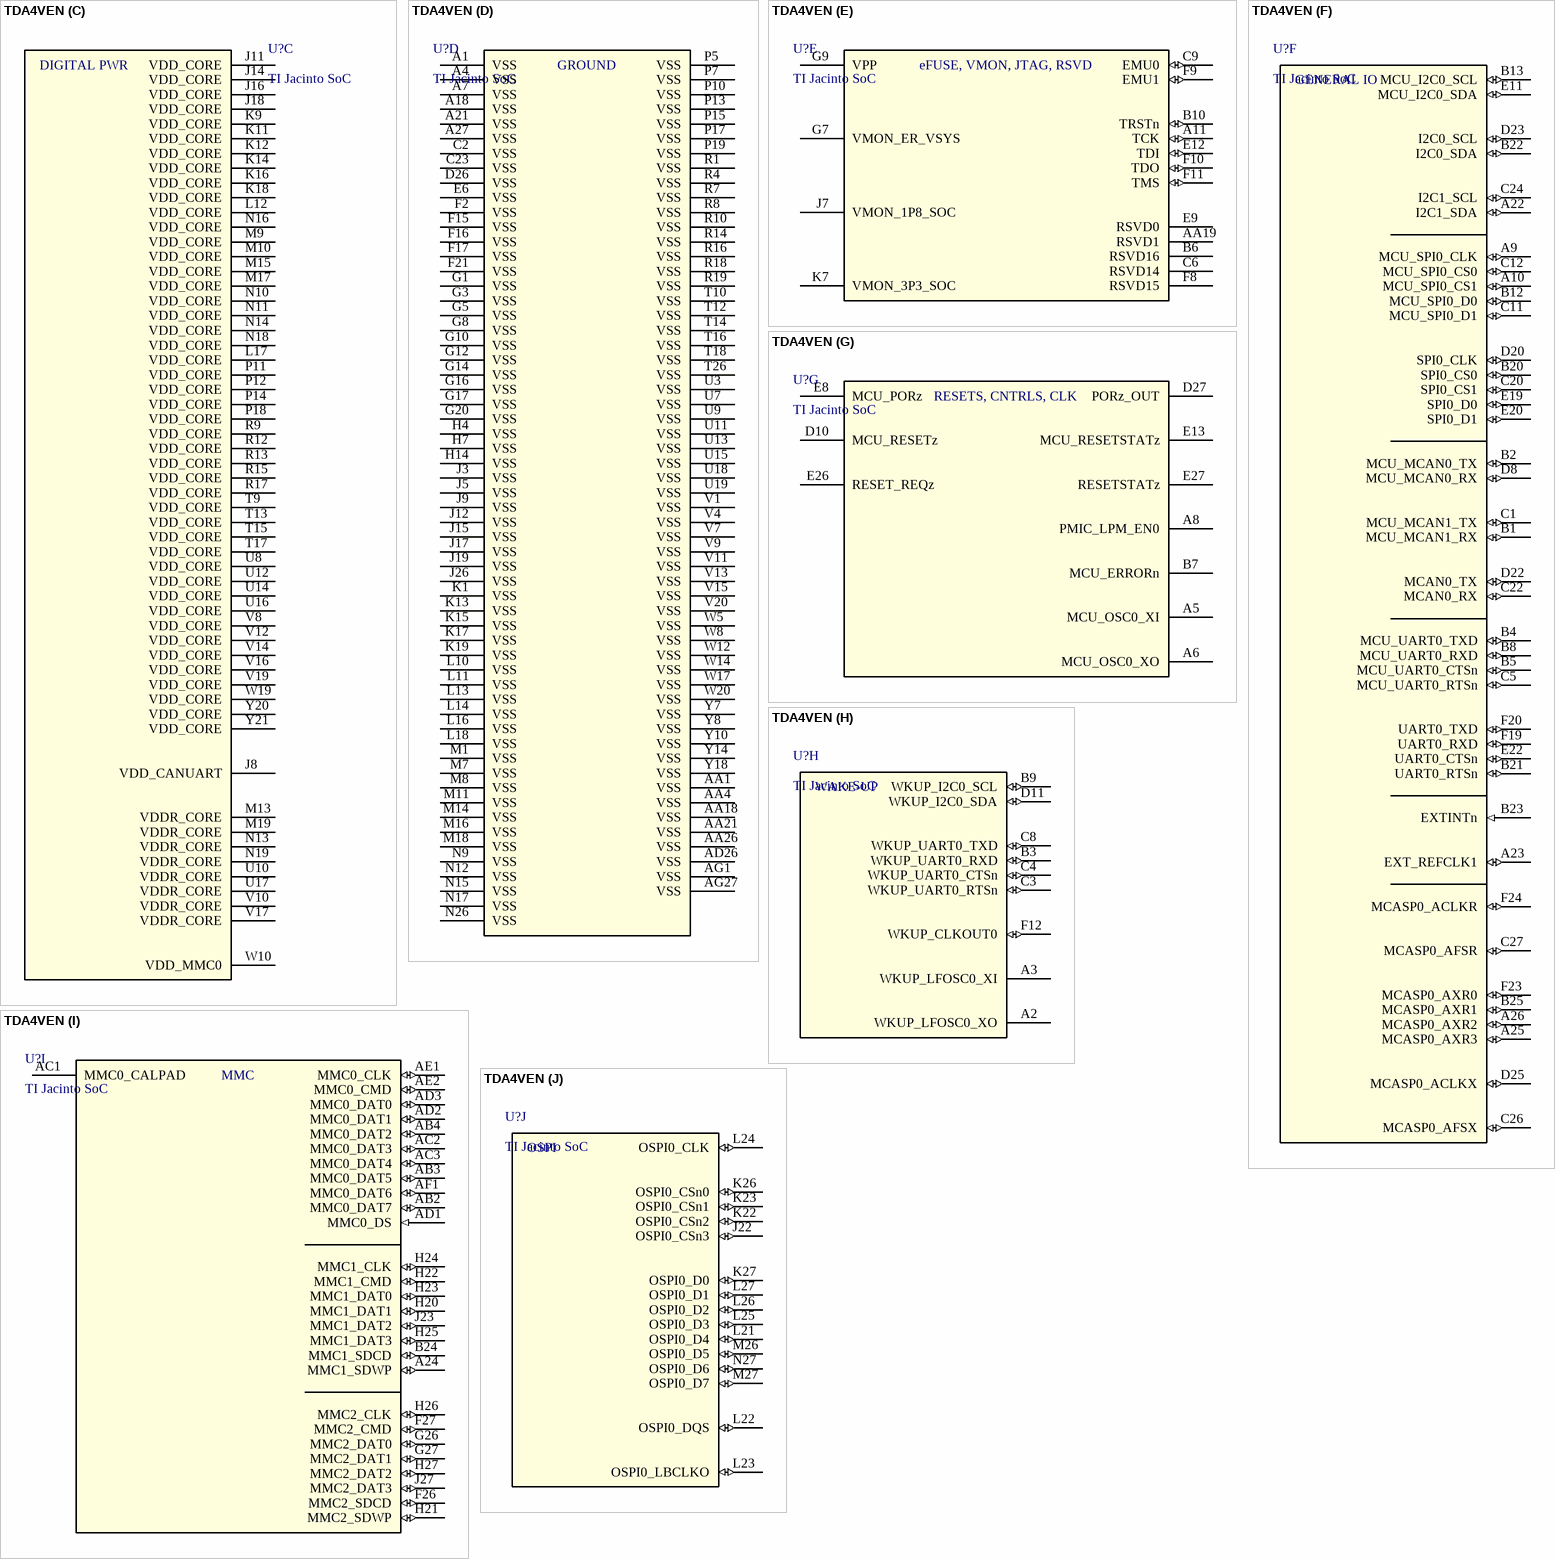
[diagram p5: symbol TDA4VEN]

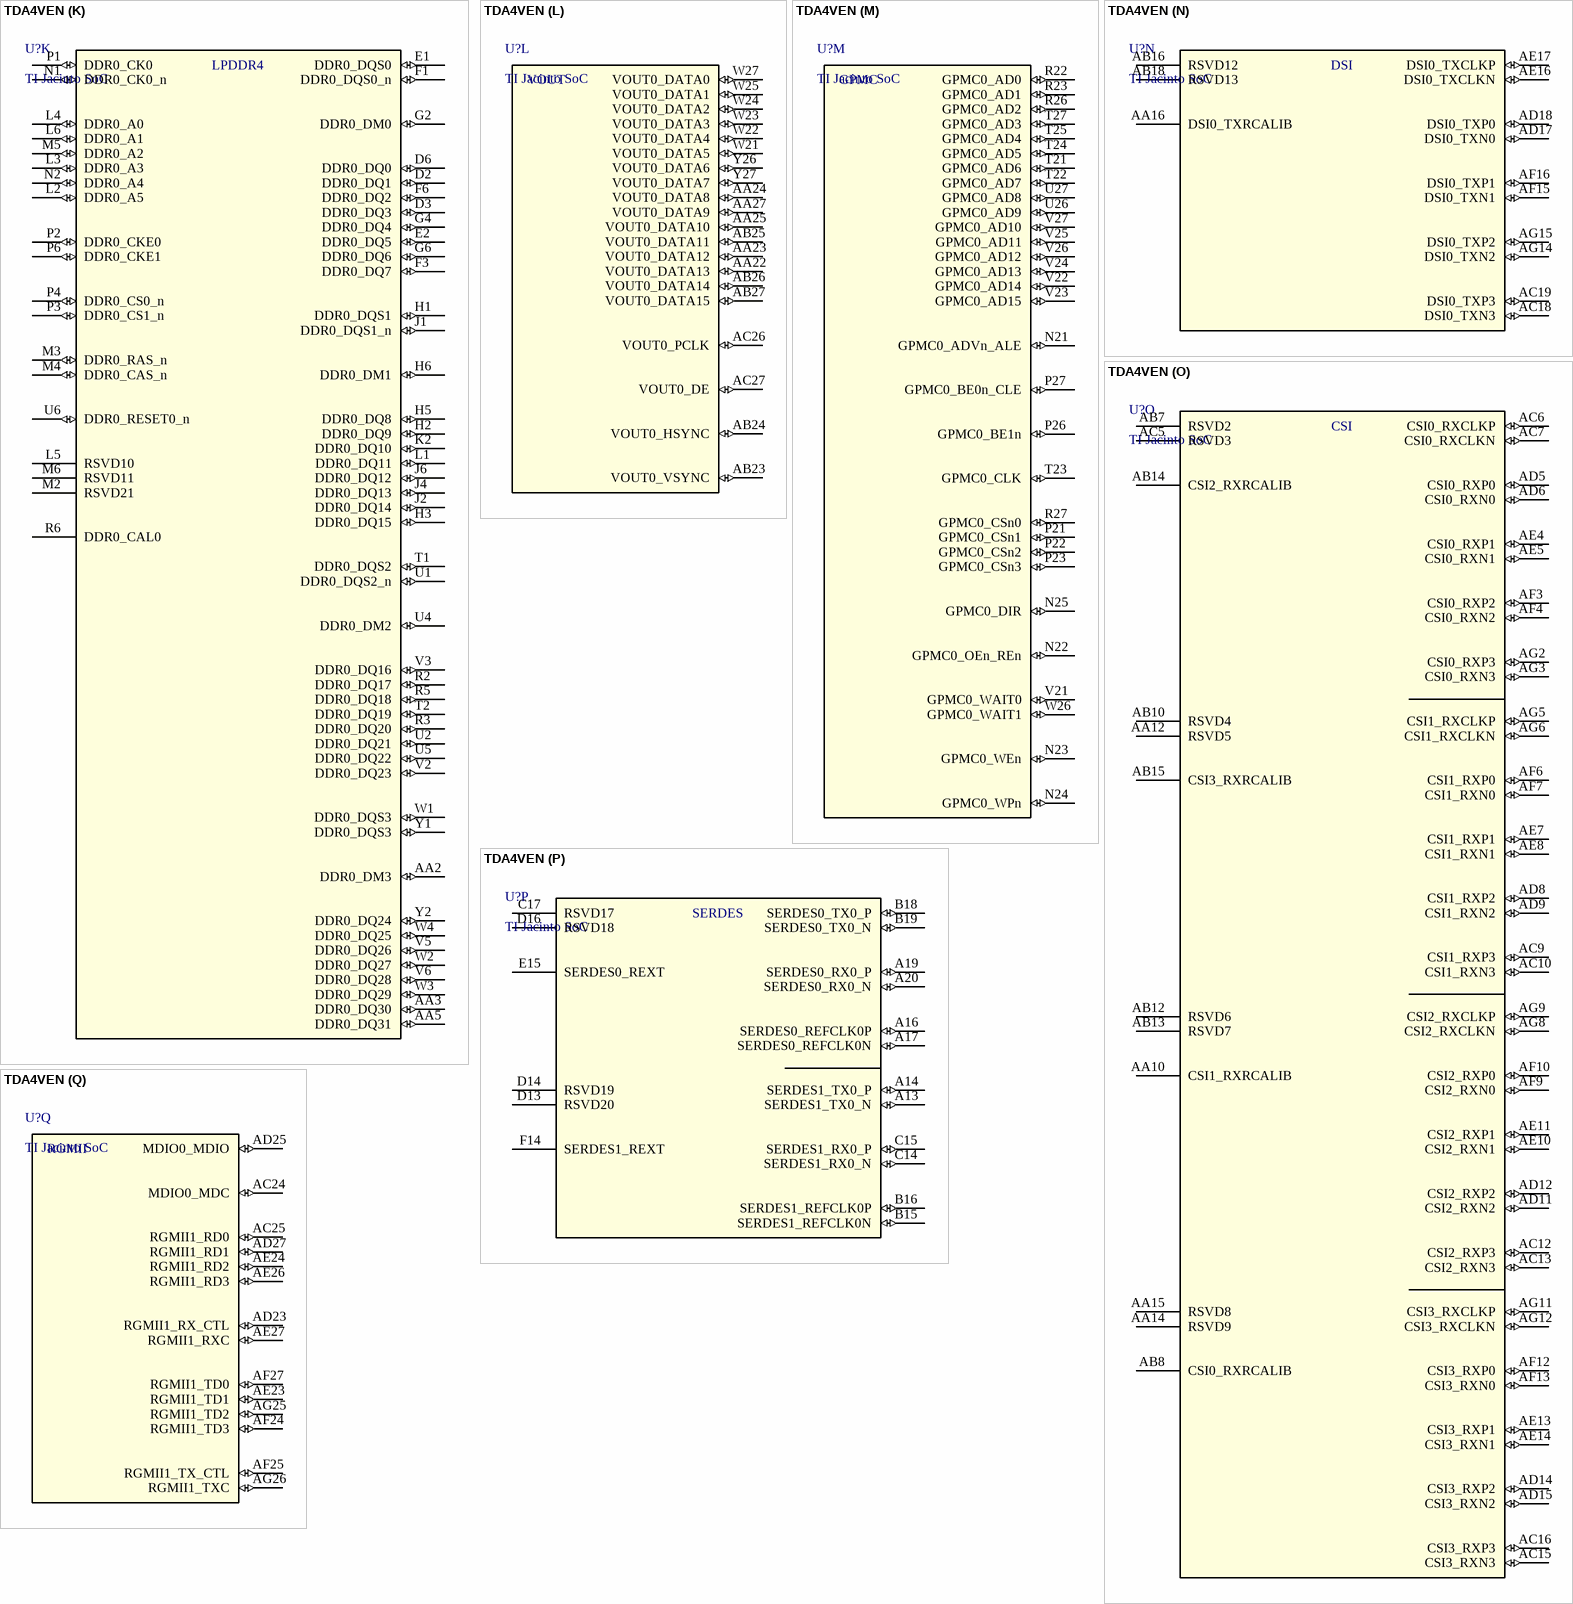
[diagram p6: symbol TDA4VEN]

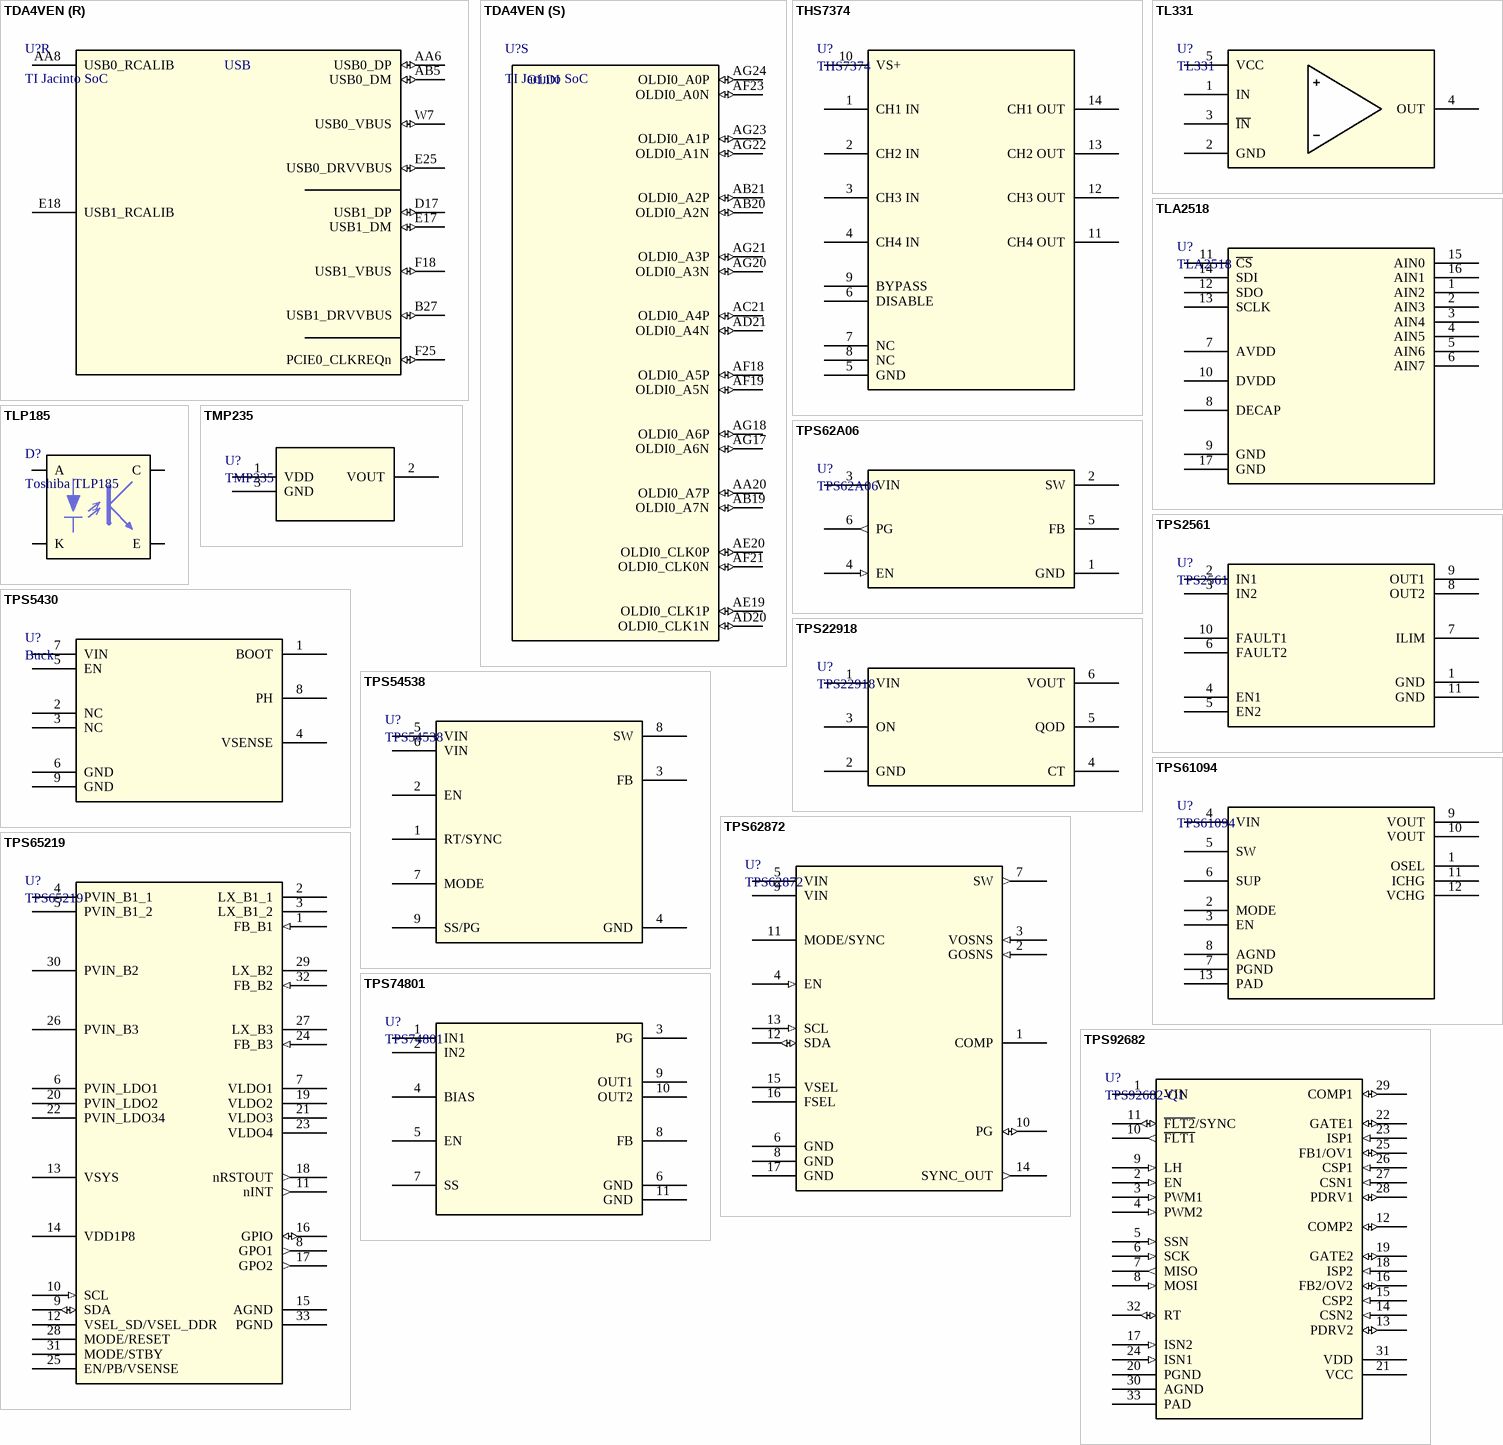
[diagram p7: symbols TDA4VEN to TPS92682]

## TDA4VEN
designator U?, comment TI Jacinto SoC
footprint FCBGA-594
part A pins: G11 VDDA_MCU (power), G13 VDDA_1P8_SERDES (power), G15 VDDA_3P3_USB1 (power), H11 VDDA_MCU (power), H12 VDDA_0P85_SERDES (power), H13 VDDA_0P85_SERDES (power), H15 VDDA_CORE_USB1 (power), H16 VDDA_1P8_USB1 (power), J13 VDDA_0P85_SERDES_C (power), K8 VDDS_OSC0 (power), K10 VDDA_PLL1 (power), L9 VDDA_TEMP2 (power), L15 VDDA_PLL0 (power), M12 VDDA_PLL2 (power), P9 VDDA_DDR_PLL0 (power), P16 VDDA_PLL5 (power), R11 VDDA_PLL3 (power), T11 VDDA_TEMP1 (power), V18 VDDA_PLL4 (power), W9 VDDA_0P85_DLL_MMC0 (power), W11 VDDA_CORE_USB0 (power), W13 VDDA_1P8_CSI_DSI (power), W15 VDDA_CORE_CSI_DSI (power), W16 VDDA_1P8_CSI_DSI (power), W18 VDDA_1P8_OLDI0 (power), Y11 VDDA_3P3_USB0 (power), Y12 VDDA_1P8_USB0 (power), Y13 VDDA_1P8_CSI_DSI (power), Y15 VDDA_CORE_CSI_DSI (power), Y16 VDDA_CORE_CSI_DSI_CLK (power), Y17 VDDA_TEMP0 (power), Y19 VDDA_1P8_OLDI0 (power)
part B pins: AB1 VDDS_DDR (power), D1 VDDS_DDR (power), G18 VDDSHV0 (power), G19 CAP_VDDS5 (power), H8 CAP_VDDS_CANUART (power), H9 VDDSHV_CANUART (power), H10 VDDSHV_MCU (power), H17 CAP_VDDS0 (power), H18 VDDSHV0 (power), H19 VDDSHV5 (power), J10 CAP_VDDS_MCU (power), J20 CAP_VDDS6 (power), J21 VDDSHV6 (power), K20 VDDSHV1 (power), L7 VDDS_DDR (power), L8 VDDS_DDR (power), L19 CAP_VDDS1 (power), L20 VDDSHV1 (power), M20 VDDSHV3 (power), N7 VDDS_DDR (power), N8 VDDS_DDR (power), N20 CAP_VDDS3 (power), P8 VDDS_DDR_C (power), P20 VDDSHV3 (power), R20 VDDSHV3 (power), T7 VDDS_DDR (power), T8 VDDS_DDR (power), T19 VDDSHV2 (power), T20 VDDSHV2 (power), U20 CAP_VDDS2 (power), Y9 VDDS_MMC0 (power)
part C pins: J8 VDD_CANUART (power), J11 VDD_CORE (power), J14 VDD_CORE (power), J16 VDD_CORE (power), J18 VDD_CORE (power), K9 VDD_CORE (power), K11 VDD_CORE (power), K12 VDD_CORE (power), K14 VDD_CORE (power), K16 VDD_CORE (power), K18 VDD_CORE (power), L12 VDD_CORE (power), L17 VDD_CORE (power), M9 VDD_CORE (power), M10 VDD_CORE (power), M13 VDDR_CORE (power), M15 VDD_CORE (power), M17 VDD_CORE (power), M19 VDDR_CORE (power), N10 VDD_CORE (power), N11 VDD_CORE (power), N13 VDDR_CORE (power), N14 VDD_CORE (power), N16 VDD_CORE (power), N18 VDD_CORE (power), N19 VDDR_CORE (power), P11 VDD_CORE (power), P12 VDD_CORE (power), P14 VDD_CORE (power), P18 VDD_CORE (power), R9 VDD_CORE (power), R12 VDD_CORE (power), R13 VDD_CORE (power), R15 VDD_CORE (power), R17 VDD_CORE (power), T9 VDD_CORE (power), T13 VDD_CORE (power), T15 VDD_CORE (power), T17 VDD_CORE (power), U8 VDD_CORE (power), U10 VDDR_CORE (power), U12 VDD_CORE (power), U14 VDD_CORE (power), U16 VDD_CORE (power), U17 VDDR_CORE (power), V8 VDD_CORE (power), V10 VDDR_CORE (power), V12 VDD_CORE (power), V14 VDD_CORE (power), V16 VDD_CORE (power), V17 VDDR_CORE (power), V19 VDD_CORE (power), W10 VDD_MMC0 (power), W19 VDD_CORE (power), Y20 VDD_CORE (power), Y21 VDD_CORE (power)
part D pins: A1 VSS (power), A4 VSS (power), A7 VSS (power), A18 VSS (power), A21 VSS (power), A27 VSS (power), AA1 VSS (power), AA4 VSS (power), AA18 VSS (power), AA21 VSS (power), AA26 VSS (power), AD26 VSS (power), AG1 VSS (power), AG27 VSS (power), C2 VSS (power), C23 VSS (power), D26 VSS (power), E6 VSS (power), F2 VSS (power), F15 VSS (power), F16 VSS (power), F17 VSS (power), F21 VSS (power), G1 VSS (power), G3 VSS (power), G5 VSS (power), G8 VSS (power), G10 VSS (power), G12 VSS (power), G14 VSS (power), G16 VSS (power), G17 VSS (power), G20 VSS (power), H4 VSS (power), H7 VSS (power), H14 VSS (power), J3 VSS (power), J5 VSS (power), J9 VSS (power), J12 VSS (power), J15 VSS (power), J17 VSS (power), J19 VSS (power), J26 VSS (power), K1 VSS (power), K13 VSS (power), K15 VSS (power), K17 VSS (power), K19 VSS (power), L10 VSS (power), L11 VSS (power), L13 VSS (power), L14 VSS (power), L16 VSS (power), L18 VSS (power), M1 VSS (power), M7 VSS (power), M8 VSS (power), M11 VSS (power), M14 VSS (power), M16 VSS (power), M18 VSS (power), N9 VSS (power), N12 VSS (power), N15 VSS (power), N17 VSS (power), N26 VSS (power), P5 VSS (power), P7 VSS (power), P10 VSS (power), P13 VSS (power), P15 VSS (power), P17 VSS (power), P19 VSS (power), R1 VSS (power), R4 VSS (power), R7 VSS (power), R8 VSS (power), R10 VSS (power), R14 VSS (power), R16 VSS (power), R18 VSS (power), R19 VSS (power), T10 VSS (power), T12 VSS (power), T14 VSS (power), T16 VSS (power), T18 VSS (power), T26 VSS (power), U3 VSS (power), U7 VSS (power), U9 VSS (power), U11 VSS (power), U13 VSS (power), U15 VSS (power), U18 VSS (power), U19 VSS (power), V1 VSS (power), V4 VSS (power), V7 VSS (power), V9 VSS (power), V11 VSS (power), V13 VSS (power), V15 VSS (power), V20 VSS (power), W5 VSS (power), W8 VSS (power), W12 VSS (power), W14 VSS (power), W17 VSS (power), W20 VSS (power), Y7 VSS (power), Y8 VSS (power), Y10 VSS (power), Y14 VSS (power), Y18 VSS (power)
part E pins: A11 TCK (io), AA19 RSVD1, B6 RSVD16, B10 TRSTn (io), C6 RSVD14, C9 EMU0 (io), E9 RSVD0, E12 TDI (io), F8 RSVD15, F9 EMU1 (io), F10 TDO (io), F11 TMS (io), G7 VMON_ER_VSYS (power), G9 VPP (power), J7 VMON_1P8_SOC (power), K7 VMON_3P3_SOC (power)
part F pins: A9 MCU_SPI0_CLK (io), A10 MCU_SPI0_CS1 (io), A22 I2C1_SDA (io), A23 EXT_REFCLK1 (io), A25 MCASP0_AXR3 (io), A26 MCASP0_AXR2 (io), B1 MCU_MCAN1_RX (io), B2 MCU_MCAN0_TX (io), B4 MCU_UART0_TXD (io), B5 MCU_UART0_CTSn (io), B8 MCU_UART0_RXD (io), B12 MCU_SPI0_D0 (io), B13 MCU_I2C0_SCL (io), B20 SPI0_CS0 (io), B21 UART0_RTSn (io), B22 I2C0_SDA (io), B23 EXTINTn (in), B25 MCASP0_AXR1 (io), C1 MCU_MCAN1_TX (io), C5 MCU_UART0_RTSn (io), C11 MCU_SPI0_D1 (io), C12 MCU_SPI0_CS0 (io), C20 SPI0_CS1 (io), C22 MCAN0_RX (io), C24 I2C1_SCL (io), C26 MCASP0_AFSX (io), C27 MCASP0_AFSR (io), D8 MCU_MCAN0_RX (io), D20 SPI0_CLK (io), D22 MCAN0_TX (io), D23 I2C0_SCL (io), D25 MCASP0_ACLKX (io), E11 MCU_I2C0_SDA (io), E19 SPI0_D0 (io), E20 SPI0_D1 (io), E22 UART0_CTSn (io), F19 UART0_RXD (io), F20 UART0_TXD (io), F23 MCASP0_AXR0 (io), F24 MCASP0_ACLKR (io)
part G pins: A5 MCU_OSC0_XI, A6 MCU_OSC0_XO, A8 PMIC_LPM_EN0, B7 MCU_ERRORn, D10 MCU_RESETz, D27 PORz_OUT, E8 MCU_PORz, E13 MCU_RESETSTATz, E26 RESET_REQz, E27 RESETSTATz
part H pins: A2 WKUP_LFOSC0_XO, A3 WKUP_LFOSC0_XI, B3 WKUP_UART0_RXD (io), B9 WKUP_I2C0_SCL (io), C3 WKUP_UART0_RTSn (io), C4 WKUP_UART0_CTSn (io), C8 WKUP_UART0_TXD (io), D11 WKUP_I2C0_SDA (io), F12 WKUP_CLKOUT0 (io)
part I pins: A24 MMC1_SDWP (io), AB2 MMC0_DAT7 (io), AB3 MMC0_DAT5 (io), AB4 MMC0_DAT2 (io), AC1 MMC0_CALPAD, AC2 MMC0_DAT3 (io), AC3 MMC0_DAT4 (io), AD1 MMC0_DS (in), AD2 MMC0_DAT1 (io), AD3 MMC0_DAT0 (io), AE1 MMC0_CLK (io), AE2 MMC0_CMD (io), AF1 MMC0_DAT6 (io), B24 MMC1_SDCD (io), F26 MMC2_SDCD (io), F27 MMC2_CMD (io), G26 MMC2_DAT0 (io), G27 MMC2_DAT1 (io), H20 MMC1_DAT1 (io), H21 MMC2_SDWP (io), H22 MMC1_CMD (io), H23 MMC1_DAT0 (io), H24 MMC1_CLK (io), H25 MMC1_DAT3 (io), H26 MMC2_CLK (io), H27 MMC2_DAT2 (io), J23 MMC1_DAT2 (io), J27 MMC2_DAT3 (io)
part J pins: J22 OSPI0_CSn3 (io), K22 OSPI0_CSn2 (io), K23 OSPI0_CSn1 (io), K26 OSPI0_CSn0 (io), K27 OSPI0_D0 (io), L21 OSPI0_D4 (io), L22 OSPI0_DQS (io), L23 OSPI0_LBCLKO (io), L24 OSPI0_CLK (io), L25 OSPI0_D3 (io), L26 OSPI0_D2 (io), L27 OSPI0_D1 (io), M26 OSPI0_D5 (io), M27 OSPI0_D7 (io), N27 OSPI0_D6 (io)
part K pins: AA2 DDR0_DM3 (io), AA3 DDR0_DQ30 (io), AA5 DDR0_DQ31 (io), D2 DDR0_DQ1 (io), D3 DDR0_DQ3 (io), D6 DDR0_DQ0 (io), E1 DDR0_DQS0 (io), E2 DDR0_DQ5 (io), F1 DDR0_DQS0_n (io), F3 DDR0_DQ7 (io), F6 DDR0_DQ2 (io), G2 DDR0_DM0 (io), G4 DDR0_DQ4 (io), G6 DDR0_DQ6 (io), H1 DDR0_DQS1 (io), H2 DDR0_DQ9 (io), H3 DDR0_DQ15 (io), H5 DDR0_DQ8 (io), H6 DDR0_DM1 (io), J1 DDR0_DQS1_n (io), J2 DDR0_DQ14 (io), J4 DDR0_DQ13 (io), J6 DDR0_DQ12 (io), K2 DDR0_DQ10 (io), L1 DDR0_DQ11 (io), L2 DDR0_A5 (io), L3 DDR0_A3 (io), L4 DDR0_A0 (io), L5 RSVD10, L6 DDR0_A1 (io), M2 RSVD21, M3 DDR0_RAS_n (io), M4 DDR0_CAS_n (io), M5 DDR0_A2 (io), M6 RSVD11, N1 DDR0_CK0_n (io), N2 DDR0_A4 (io), P1 DDR0_CK0 (io), P2 DDR0_CKE0 (io), P3 DDR0_CS1_n (io), P4 DDR0_CS0_n (io), P6 DDR0_CKE1 (io), R2 DDR0_DQ17 (io), R3 DDR0_DQ20 (io), R5 DDR0_DQ18 (io), R6 DDR0_CAL0, T1 DDR0_DQS2 (io), T2 DDR0_DQ19 (io), U1 DDR0_DQS2_n (io), U2 DDR0_DQ21 (io), U4 DDR0_DM2 (io), U5 DDR0_DQ22 (io), U6 DDR0_RESET0_n (io), V2 DDR0_DQ23 (io), V3 DDR0_DQ16 (io), V5 DDR0_DQ26 (io), V6 DDR0_DQ28 (io), W1 DDR0_DQS3 (io), W2 DDR0_DQ27 (io), W3 DDR0_DQ29 (io), W4 DDR0_DQ25 (io), Y1 DDR0_DQS3 (io), Y2 DDR0_DQ24 (io)
part L pins: AA22 VOUT0_DATA13 (io), AA23 VOUT0_DATA12 (io), AA24 VOUT0_DATA8 (io), AA25 VOUT0_DATA10 (io), AA27 VOUT0_DATA9 (io), AB23 VOUT0_VSYNC (io), AB24 VOUT0_HSYNC (io), AB25 VOUT0_DATA11 (io), AB26 VOUT0_DATA14 (io), AB27 VOUT0_DATA15 (io), AC26 VOUT0_PCLK (io), AC27 VOUT0_DE (io), W21 VOUT0_DATA5 (io), W22 VOUT0_DATA4 (io), W23 VOUT0_DATA3 (io), W24 VOUT0_DATA2 (io), W25 VOUT0_DATA1 (io), W27 VOUT0_DATA0 (io), Y26 VOUT0_DATA6 (io), Y27 VOUT0_DATA7 (io)
part M pins: N21 GPMC0_ADVn_ALE (io), N22 GPMC0_OEn_REn (io), N23 GPMC0_WEn (io), N24 GPMC0_WPn (io), N25 GPMC0_DIR (io), P21 GPMC0_CSn1 (io), P22 GPMC0_CSn2 (io), P23 GPMC0_CSn3 (io), P26 GPMC0_BE1n (io), P27 GPMC0_BE0n_CLE (io), R22 GPMC0_AD0 (io), R23 GPMC0_AD1 (io), R26 GPMC0_AD2 (io), R27 GPMC0_CSn0 (io), T21 GPMC0_AD6 (io), T22 GPMC0_AD7 (io), T23 GPMC0_CLK (io), T24 GPMC0_AD5 (io), T25 GPMC0_AD4 (io), T27 GPMC0_AD3 (io), U26 GPMC0_AD9 (io), U27 GPMC0_AD8 (io), V21 GPMC0_WAIT0 (io), V22 GPMC0_AD14 (io), V23 GPMC0_AD15 (io), V24 GPMC0_AD13 (io), V25 GPMC0_AD11 (io), V26 GPMC0_AD12 (io), V27 GPMC0_AD10 (io), W26 GPMC0_WAIT1 (io)
part N pins: AA16 DSI0_TXRCALIB, AB16 RSVD12, AB18 RSVD13, AC18 DSI0_TXN3 (io), AC19 DSI0_TXP3 (io), AD17 DSI0_TXN0 (io), AD18 DSI0_TXP0 (io), AE16 DSI0_TXCLKN (io), AE17 DSI0_TXCLKP (io), AF15 DSI0_TXN1 (io), AF16 DSI0_TXP1 (io), AG14 DSI0_TXN2 (io), AG15 DSI0_TXP2 (io)
part O pins: AA10 CSI1_RXRCALIB, AA12 RSVD5, AA14 RSVD9, AA15 RSVD8, AB7 RSVD2, AB8 CSI0_RXRCALIB, AB10 RSVD4, AB12 RSVD6, AB13 RSVD7, AB14 CSI2_RXRCALIB, AB15 CSI3_RXRCALIB, AC5 RSVD3, AC6 CSI0_RXCLKP (io), AC7 CSI0_RXCLKN (io), AC9 CSI1_RXP3 (io), AC10 CSI1_RXN3 (io), AC12 CSI2_RXP3 (io), AC13 CSI2_RXN3 (io), AC15 CSI3_RXN3 (io), AC16 CSI3_RXP3 (io), AD5 CSI0_RXP0 (io), AD6 CSI0_RXN0 (io), AD8 CSI1_RXP2 (io), AD9 CSI1_RXN2 (io), AD11 CSI2_RXN2 (io), AD12 CSI2_RXP2 (io), AD14 CSI3_RXP2 (io), AD15 CSI3_RXN2 (io), AE4 CSI0_RXP1 (io), AE5 CSI0_RXN1 (io), AE7 CSI1_RXP1 (io), AE8 CSI1_RXN1 (io), AE10 CSI2_RXN1 (io), AE11 CSI2_RXP1 (io), AE13 CSI3_RXP1 (io), AE14 CSI3_RXN1 (io), AF3 CSI0_RXP2 (io), AF4 CSI0_RXN2 (io), AF6 CSI1_RXP0 (io), AF7 CSI1_RXN0 (io), AF9 CSI2_RXN0 (io), AF10 CSI2_RXP0 (io), AF12 CSI3_RXP0 (io), AF13 CSI3_RXN0 (io), AG2 CSI0_RXP3 (io), AG3 CSI0_RXN3 (io), AG5 CSI1_RXCLKP (io), AG6 CSI1_RXCLKN (io), AG8 CSI2_RXCLKN (io), AG9 CSI2_RXCLKP (io), AG11 CSI3_RXCLKP (io), AG12 CSI3_RXCLKN (io)
part P pins: A13 SERDES1_TX0_N (io), A14 SERDES1_TX0_P (io), A16 SERDES0_REFCLK0P (io), A17 SERDES0_REFCLK0N (io), A19 SERDES0_RX0_P (io), A20 SERDES0_RX0_N (io), B15 SERDES1_REFCLK0N (io), B16 SERDES1_REFCLK0P (io), B18 SERDES0_TX0_P (io), B19 SERDES0_TX0_N (io), C14 SERDES1_RX0_N (io), C15 SERDES1_RX0_P (io), C17 RSVD17, D13 RSVD20, D14 RSVD19, D16 RSVD18, E15 SERDES0_REXT, F14 SERDES1_REXT
part Q pins: AC24 MDIO0_MDC (io), AC25 RGMII1_RD0 (io), AD23 RGMII1_RX_CTL (io), AD25 MDIO0_MDIO (io), AD27 RGMII1_RD1 (io), AE23 RGMII1_TD1 (io), AE24 RGMII1_RD2 (io), AE26 RGMII1_RD3 (io), AE27 RGMII1_RXC (io), AF24 RGMII1_TD3 (io), AF25 RGMII1_TX_CTL (io), AF27 RGMII1_TD0 (io), AG25 RGMII1_TD2 (io), AG26 RGMII1_TXC (io)
part R pins: AA6 USB0_DP (io), AA8 USB0_RCALIB, AB5 USB0_DM (io), B27 USB1_DRVVBUS (io), D17 USB1_DP (io), E17 USB1_DM (io), E18 USB1_RCALIB, E25 USB0_DRVVBUS (io), F18 USB1_VBUS (io), F25 PCIE0_CLKREQn (io), W7 USB0_VBUS (io)
part S pins: AA20 OLDI0_A7P (io), AB19 OLDI0_A7N (io), AB20 OLDI0_A2N (io), AB21 OLDI0_A2P (io), AC21 OLDI0_A4P (io), AD20 OLDI0_CLK1N (io), AD21 OLDI0_A4N (io), AE19 OLDI0_CLK1P (io), AE20 OLDI0_CLK0P (io), AF18 OLDI0_A5P (io), AF19 OLDI0_A5N (io), AF21 OLDI0_CLK0N (io), AF23 OLDI0_A0N (io), AG17 OLDI0_A6N (io), AG18 OLDI0_A6P (io), AG20 OLDI0_A3N (io), AG21 OLDI0_A3P (io), AG22 OLDI0_A1N (io), AG23 OLDI0_A1P (io), AG24 OLDI0_A0P (io)
part A text: ANALOG PWR
part B text: IO & DDR PWR
part C text: DIGITAL PWR
part D text: GROUND
part E text: eFUSE, VMON, JTAG, RSVD
part F text: GENERAL IO
part G text: RESETS, CNTRLS, CLK
part H text: WAKE-UP
part I text: MMC
part J text: OSPI
part K text: LPDDR4
part L text: VOUT
part M text: GPMC
part N text: DSI
part O text: CSI
part P text: SERDES
part Q text: RGMII
part R text: USB
part S text: OLDI

## THS7374
designator U?
footprint TSSOP14
pins: 1 CH1 IN, 2 CH2 IN, 3 CH3 IN, 4 CH4 IN, 5 GND (power), 6 DISABLE, 7 NC, 8 NC, 9 BYPASS, 10 VS+ (power), 11 CH4 OUT, 12 CH3 OUT, 13 CH2 OUT, 14 CH1 OUT

## TL331
designator U?
footprint SOT23-5
pins: 1 IN, 2 GND (power), 3 ~{IN}, 4 OUT, 5 VCC (power)

## TLA2518
designator U?
footprint VQFN16
pins: 1 AIN2, 2 AIN3, 3 AIN4, 4 AIN5, 5 AIN6, 6 AIN7, 7 AVDD (power), 8 DECAP (power), 9 GND (power), 10 DVDD (power), 11 ~{CS}, 12 SDO, 13 SCLK, 14 SDI, 15 AIN0, 16 AIN1, 17 GND (power)

## TLP185
designator D?, comment Toshiba TLP185
footprint SO4
pins: 1 A, 2 K, 3 C, 4 E

## TMP235
designator U?
TMP23x Low-Power, High-Accuracy Analog Output Temperature Sensors
footprint SOT23-3
pins: 1 VDD (power), 2 VOUT (power), 3 GND (power)

## TPS62A06
designator U?
footprint SOT563-6
pins: 1 GND (power), 2 SW (power), 3 VIN (power), 4 EN (in), 5 FB, 6 PG (out)

## TPS2561
designator U?
footprint VSON10
pins: 1 GND (power), 2 IN1 (power), 3 IN2 (power), 4 EN1 (power), 5 EN2 (power), 6 FAULT2 (power), 7 ILIM (power), 8 OUT2 (power), 9 OUT1 (power), 10 FAULT1 (power), 11 GND (power)

## TPS5430
designator U?, comment Buck
footprint SOP8
pins: 1 BOOT, 2 NC, 3 NC, 4 VSENSE, 5 EN, 6 GND (power), 7 VIN (power), 8 PH, 9 GND (power)

## TPS22918
designator U?
footprint SOT23-6
pins: 1 VIN (power), 2 GND (power), 3 ON, 4 CT (power), 5 QOD, 6 VOUT (power)

## TPS54538
designator U?
footprint VQFN-HR
pins: 1 RT/SYNC (power), 2 EN (power), 3 FB (power), 4 GND (power), 5 VIN (power), 6 VIN (power), 7 MODE (power), 8 SW (power), 9 SS/PG (power)

## TPS61094
designator U?
footprint WSON12
pins: 1 OSEL, 2 MODE, 3 EN, 4 VIN (power), 5 SW, 6 SUP, 7 PGND, 8 AGND, 9 VOUT, 10 VOUT, 11 ICHG, 12 VCHG, 13 PAD

## TPS62872
designator U?
footprint VQFN-FCRLF
pins: 1 COMP, 2 GOSNS (in), 3 VOSNS (in), 4 EN (in), 5 VIN (power), 6 GND (power), 7 SW (out), 8 GND (power), 9 VIN (power), 10 PG (io), 11 MODE/SYNC, 12 SDA (io), 13 SCL (in), 14 SYNC_OUT (out), 15 VSEL, 16 FSEL, 17 GND (power)

## TPS65219
designator U?
footprint VQFN32
pins: 1 FB_B1 (in), 2 LX_B1_1 (power), 3 LX_B1_2 (power), 4 PVIN_B1_1 (power), 5 PVIN_B1_2 (power), 6 PVIN_LDO1 (power), 7 VLDO1 (power), 8 GPO1 (out), 9 SDA (io), 10 SCL (in), 11 nINT (out), 12 VSEL_SD/VSEL_DDR, 13 VSYS (power), 14 VDD1P8 (power), 15 AGND (power), 16 GPIO (io), 17 GPO2 (out), 18 nRSTOUT (out), 19 VLDO2 (power), 20 PVIN_LDO2 (power), 21 VLDO3 (power), 22 PVIN_LDO34 (power), 23 VLDO4 (power), 24 FB_B3 (in), 25 EN/PB/VSENSE, 26 PVIN_B3 (power), 27 LX_B3 (power), 28 MODE/RESET, 29 LX_B2 (power), 30 PVIN_B2 (power), 31 MODE/STBY, 32 FB_B2 (in), 33 PGND (power)

## TPS74801
designator U?
footprint VSON10
pins: 1 IN1 (power), 2 IN2 (power), 3 PG (power), 4 BIAS (power), 5 EN (power), 6 GND (power), 7 SS (power), 8 FB (power), 9 OUT1 (power), 10 OUT2 (power), 11 GND (power)

## TPS92682
designator U?, comment TPS92682-Q1
footprint VQFNP32
pins: 1 VIN (power), 2 EN (in), 3 PWM1 (in), 4 PWM2 (in), 5 SSN (in), 6 SCK (in), 7 MISO (out), 8 MOSI (in), 9 LH (in), 10 ~{FLT1} (out), 11 ~{FLT2}/SYNC (io), 12 COMP2 (io), 13 PDRV2 (io), 14 CSN2 (in), 15 CSP2 (in), 16 FB2/OV2 (io), 17 ISN2 (in), 18 ISP2 (in), 19 GATE2 (io), 20 PGND (power), 21 VCC (power), 22 GATE1 (io), 23 ISP1 (in), 24 ISN1 (in), 25 FB1/OV1 (io), 26 CSP1 (in), 27 CSN1 (in), 28 PDRV1 (io), 29 COMP1 (io), 30 AGND (power), 31 VDD (power), 32 RT (io), 33 PAD (power)

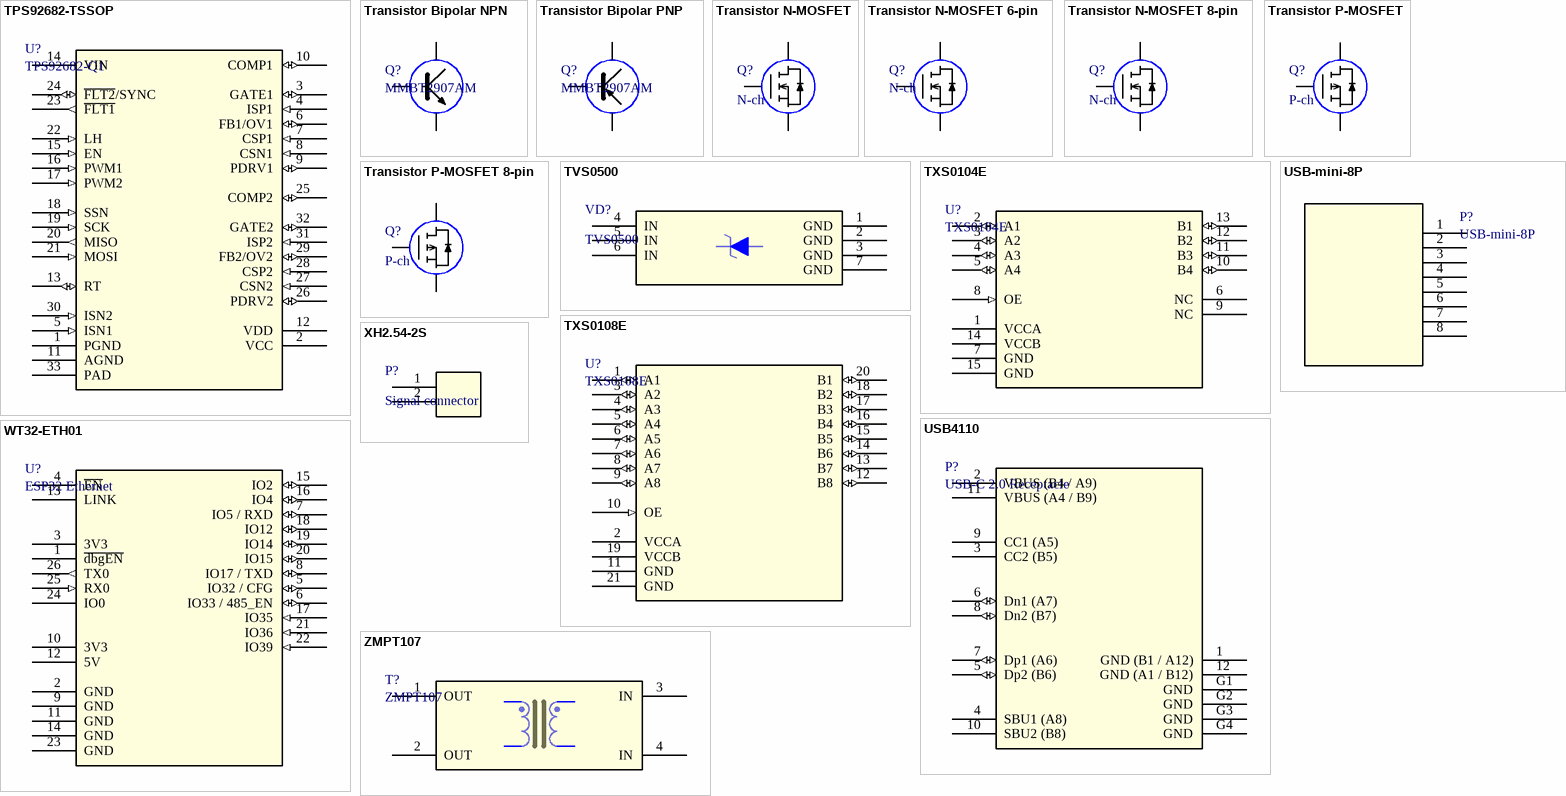
[diagram p8: symbols TPS92682-TSSOP to ZMPT107]

## TPS92682-TSSOP
designator U?, comment TPS92682-Q1
footprint TSSOP32
pins: 1 PGND (power), 2 VCC (power), 3 GATE1 (io), 4 ISP1 (in), 5 ISN1 (in), 6 FB1/OV1 (io), 7 CSP1 (in), 8 CSN1 (in), 9 PDRV1 (io), 10 COMP1 (io), 11 AGND (power), 12 VDD (power), 13 RT (io), 14 VIN (power), 15 EN (in), 16 PWM1 (in), 17 PWM2 (in), 18 SSN (in), 19 SCK (in), 20 MISO (out), 21 MOSI (in), 22 LH (in), 23 ~{FLT1} (out), 24 ~{FLT2}/SYNC (io), 25 COMP2 (io), 26 PDRV2 (io), 27 CSN2 (in), 28 CSP2 (in), 29 FB2/OV2 (io), 30 ISN2 (in), 31 ISP2 (in), 32 GATE2 (io), 33 PAD (power)

## Transistor Bipolar NPN
designator Q?, comment MMBT2907AM
footprint SOT723
footprint SOT23-3
footprint SOT883
pins: 1 B, 2 E, 3 C

## Transistor Bipolar PNP
designator Q?, comment MMBT2907AM
footprint SOT723
footprint SOT23-3
footprint SOT883
pins: 1 B, 2 E, 3 C

## Transistor N-MOSFET
designator Q?, comment N-ch
footprint SOT883
footprint SOT23-3
footprint D2PAK
footprint DPAK
pins: 1 G, 2 S, 3 D

## Transistor N-MOSFET 6-pin
designator Q?, comment N-ch
footprint UDFN-6
pins: 1 D, 2 D, 3 G, 4 S, 5 D, 6 D, 7 D, 8 S

## Transistor N-MOSFET 8-pin
designator Q?, comment N-ch
footprint PowerFLAT 5x6
footprint SON Q3
footprint SON Q5A
pins: 1 S, 2 S, 3 S, 4 G, 5 D, 6 D, 7 D, 8 D

## Transistor P-MOSFET
designator Q?, comment P-ch
footprint SOT23-3
pins: 1 G, 2 S, 3 D

## Transistor P-MOSFET 8-pin
designator Q?, comment P-ch
footprint SON Q3
footprint PowerFLAT 5x6
pins: 1 S, 2 S, 3 S, 4 G, 5 D, 6 D, 7 D, 8 D

## TVS0500
designator VD?
footprint SON-6
pins: 1 GND (power), 2 GND (power), 3 GND (power), 4 IN (power), 5 IN (power), 6 IN (power), 7 GND (power)

## TXS0104E
designator U?
footprint VQFN14-RGY
pins: 1 VCCA (power), 2 A1 (io), 3 A2 (io), 4 A3 (io), 5 A4 (io), 6 NC, 7 GND (power), 8 OE (in), 9 NC, 10 B4 (io), 11 B3 (io), 12 B2 (io), 13 B1 (io), 14 VCCB (power), 15 GND (power)

## TXS0108E
designator U?
footprint VQFN20-RGY
pins: 1 A1 (io), 2 VCCA (power), 3 A2 (io), 4 A3 (io), 5 A4 (io), 6 A5 (io), 7 A6 (io), 8 A7 (io), 9 A8 (io), 10 OE (in), 11 GND (power), 12 B8 (io), 13 B7 (io), 14 B6 (io), 15 B5 (io), 16 B4 (io), 17 B3 (io), 18 B2 (io), 19 VCCB (power), 20 B1 (io), 21 GND (power)

## USB4110
designator P?, comment USB-C 2.0 Receptacle
footprint USB4110
pins: 1 GND (B1 / A12) (power), 2 VBUS (B4 / A9) (power), 3 CC2 (B5), 4 SBU1 (A8), 5 Dp2 (B6) (io), 6 Dn1 (A7) (io), 7 Dp1 (A6) (io), 8 Dn2 (B7) (io), 9 CC1 (A5), 10 SBU2 (B8), 11 VBUS (A4 / B9) (power), 12 GND (A1 / B12) (power), G1 GND (power), G2 GND (power), G3 GND (power), G4 GND (power)

## USB-mini-8P
designator P?
footprint USB-mini-8P
pins: 1, 2, 3, 4, 5, 6, 7, 8

## WT32-ETH01
designator U?, comment ESP32 Ethernet
footprint WT32-ETH01
footprint WT32-ETH01-CUT
pins: 1 ~{dbgEN}, 2 GND (power), 3 3V3 (power), 4 ~{EN}, 5 IO32 / CFG (io), 6 IO33 / 485_EN (io), 7 IO5 / RXD (io), 8 IO17 / TXD (io), 9 GND (power), 10 3V3 (power), 11 GND (power), 12 5V (power), 13 LINK, 14 GND (power), 15 IO2 (io), 16 IO4 (io), 17 IO35 (in), 18 IO12 (io), 19 IO14 (io), 20 IO15 (io), 21 IO36 (in), 22 IO39 (in), 23 GND (power), 24 IO0, 25 RX0 (in), 26 TX0 (out)

## XH2.54-2S
designator P?, comment Signal connector
footprint XH2.54-2S (Signal connector)
pins: 1, 2

## ZMPT107
designator T?
footprint ZMPT107
pins: 1 OUT, 2 OUT, 3 IN, 4 IN